# Altium schematic symbol library CHXXX.schlib: 489 symbols (part 4 of 7)
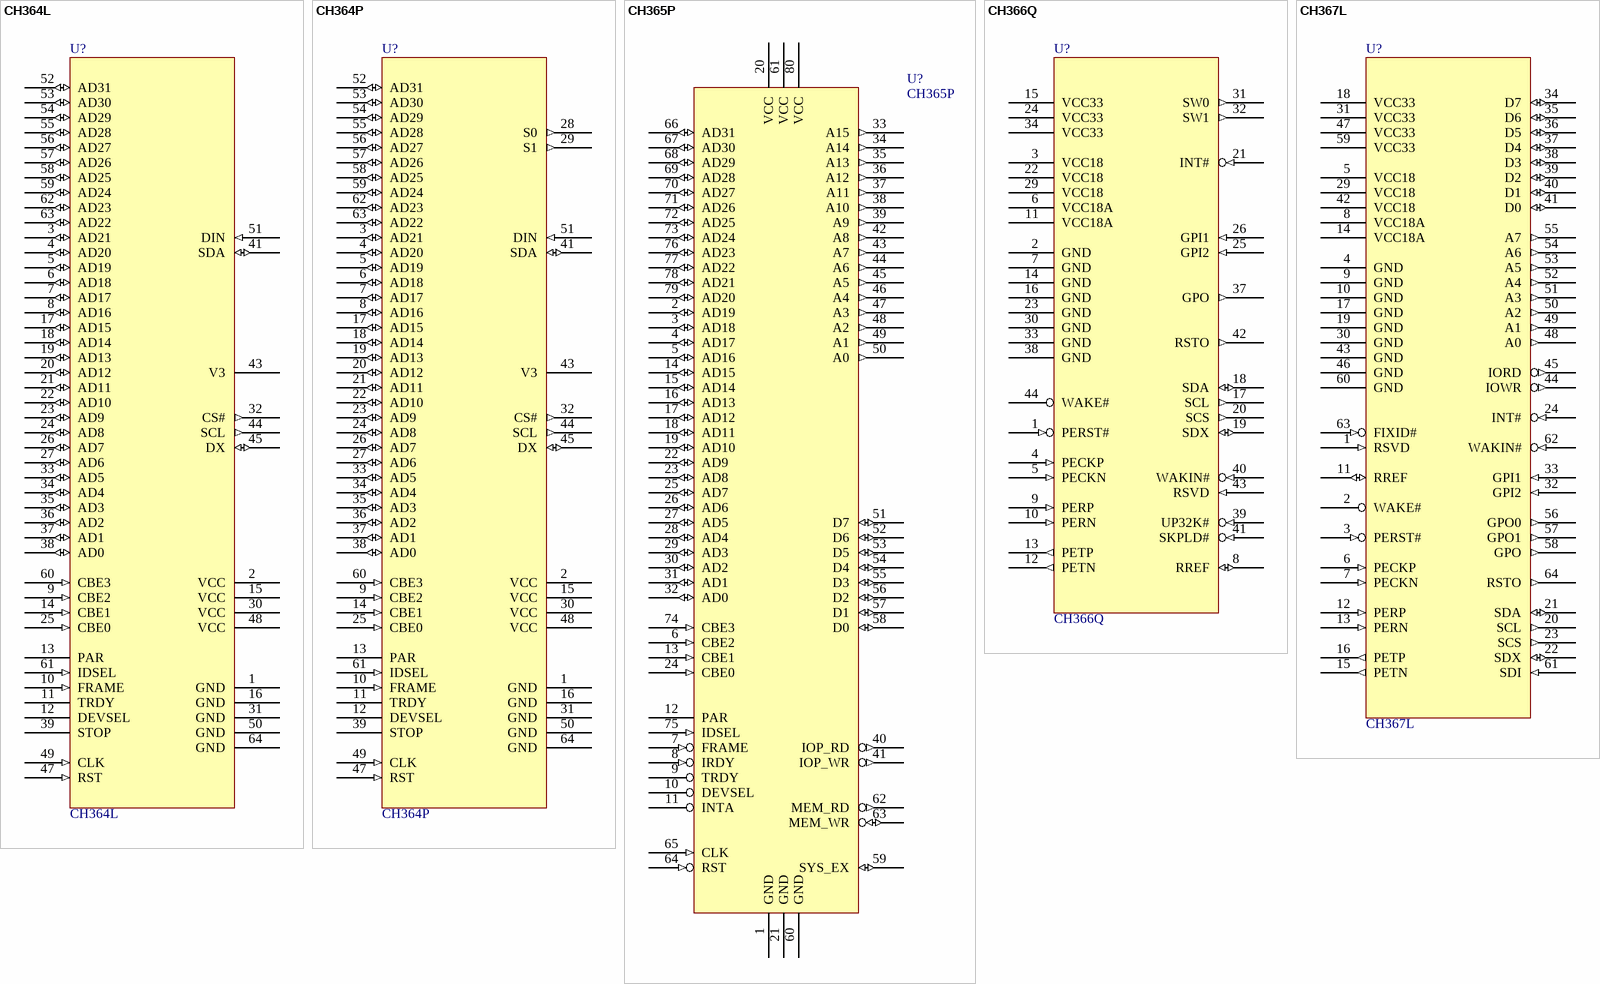
[diagram p65: symbols CH364L to CH367L]

## CH364P
designator U?
PCI Device / Slave Embedded Flash ROM, for Expansion ROM with control
footprint QFP64
pins: 1 GND (power), 2 VCC (power), 3 AD21 (io), 4 AD20 (io), 5 AD19 (io), 6 AD18 (io), 7 AD17 (io), 8 AD16 (io), 9 CBE2 (in), 10 FRAME (in), 11 TRDY (hiz), 12 DEVSEL (hiz), 13 PAR (hiz), 14 CBE1 (in), 15 VCC (power), 16 GND (power), 17 AD15 (io), 18 AD14 (io), 19 AD13 (io), 20 AD12 (io), 21 AD11 (io), 22 AD10 (io), 23 AD9 (io), 24 AD8 (io), 25 CBE0 (in), 26 AD7 (io), 27 AD6 (io), 28 S0 (out), 29 S1 (out), 30 VCC (power), 31 GND (power), 32 CS# (out), 33 AD5 (io), 34 AD4 (io), 35 AD3 (io), 36 AD2 (io), 37 AD1 (io), 38 AD0 (io), 39 STOP (hiz), 41 SDA (io), 43 V3 (power), 44 SCL (out), 45 DX (io), 47 RST (in), 48 VCC (power), 49 CLK (in), 50 GND (power), 51 DIN (in), 52 AD31 (io), 53 AD30 (io), 54 AD29 (io), 55 AD28 (io), 56 AD27 (io), 57 AD26 (io), 58 AD25 (io), 59 AD24 (io), 60 CBE3 (in), 61 IDSEL (in), 62 AD23 (io), 63 AD22 (io), 64 GND (power)

## CH365P
designator U?
PCI Device / Slave, for I/O port or RAM / ROM
footprint PQFP80
pins: 1 GND (power), 2 AD19 (io), 3 AD18 (io), 4 AD17 (io), 5 AD16 (io), 6 CBE2 (in), 7 FRAME (in), 8 IRDY (in), 9 TRDY (hiz), 10 DEVSEL (hiz), 11 INTA (hiz), 12 PAR (hiz), 13 CBE1 (in), 14 AD15 (io), 15 AD14 (io), 16 AD13 (io), 17 AD12 (io), 18 AD11 (io), 19 AD10 (io), 20 VCC (power), 21 GND (power), 22 AD9 (io), 23 AD8 (io), 24 CBE0 (in), 25 AD7 (io), 26 AD6 (io), 27 AD5 (io), 28 AD4 (io), 29 AD3 (io), 30 AD2 (io), 31 AD1 (io), 32 AD0 (io), 33 A15 (out), 34 A14 (out), 35 A13 (out), 36 A12 (out), 37 A11 (out), 38 A10 (out), 39 A9 (out), 40 IOP_RD (out), 41 IOP_WR (out), 42 A8 (out), 43 A7 (out), 44 A6 (out), 45 A5 (out), 46 A4 (out), 47 A3 (out), 48 A2 (out), 49 A1 (out), 50 A0 (out), 51 D7 (io), 52 D6 (io), 53 D5 (io), 54 D4 (io), 55 D3 (io), 56 D2 (io), 57 D1 (io), 58 D0 (io), 59 SYS_EX (io), 60 GND (power), 61 VCC (power), 62 MEM_RD (out), 63 MEM_WR (io), 64 RST (in), 65 CLK (in), 66 AD31 (io), 67 AD30 (io), 68 AD29 (io), 69 AD28 (io), 70 AD27 (io), 71 AD26 (io), 72 AD25 (io), 73 AD24 (io), 74 CBE3 (in), 75 IDSEL (in), 76 AD23 (io), 77 AD22 (io), 78 AD21 (io), 79 AD20 (io), 80 VCC (power)

## CH366Q
designator U?
PCIe Expansion ROM Controller
footprint LQFP44
pins: 1 PERST# (in), 2 GND (power), 3 VCC18 (power), 4 PECKP (in), 5 PECKN (in), 6 VCC18A (power), 7 GND (power), 8 RREF (io), 9 PERP (in), 10 PERN (in), 11 VCC18A (power), 12 PETN (out), 13 PETP (out), 14 GND (power), 15 VCC33 (power), 16 GND (power), 17 SCL (out), 18 SDA (io), 19 SDX (io), 20 SCS (out), 21 INT# (in), 22 VCC18 (power), 23 GND (power), 24 VCC33 (power), 25 GPI2 (in), 26 GPI1 (in), 29 VCC18 (power), 30 GND (power), 31 SW0 (out), 32 SW1 (out), 33 GND (power), 34 VCC33 (power), 37 GPO (out), 38 GND (power), 39 UP32K# (in), 40 WAKIN# (in), 41 SKPLD# (in), 42 RSTO (out), 43 RSVD (in), 44 WAKE# (oc)

## CH367L
designator U?
PCIe to 8-bit Local Bus, Support I/O Port
footprint LQFP64
pins: 1 RSVD (in), 2 WAKE# (oc), 3 PERST# (in), 4 GND (power), 5 VCC18 (power), 6 PECKP (in), 7 PECKN (in), 8 VCC18A (power), 9 GND (power), 10 GND (power), 11 RREF (io), 12 PERP (in), 13 PERN (in), 14 VCC18A (power), 15 PETN (out), 16 PETP (out), 17 GND (power), 18 VCC33 (power), 19 GND (power), 20 SCL (out), 21 SDA (io), 22 SDX (io), 23 SCS (out), 24 INT# (in), 29 VCC18 (power), 30 GND (power), 31 VCC33 (power), 32 GPI2 (in), 33 GPI1 (in), 34 D7 (io), 35 D6 (io), 36 D5 (io), 37 D4 (io), 38 D3 (io), 39 D2 (io), 40 D1 (io), 41 D0 (io), 42 VCC18 (power), 43 GND (power), 44 IOWR (out), 45 IORD (out), 46 GND (power), 47 VCC33 (power), 48 A0 (out), 49 A1 (out), 50 A2 (out), 51 A3 (out), 52 A4 (out), 53 A5 (out), 54 A6 (out), 55 A7 (out), 56 GPO0 (out), 57 GPO1 (out), 58 GPO (out), 59 VCC33 (power), 60 GND (power), 61 SDI (in), 62 WAKIN# (in), 63 FIXID# (in), 64 RSTO (out)

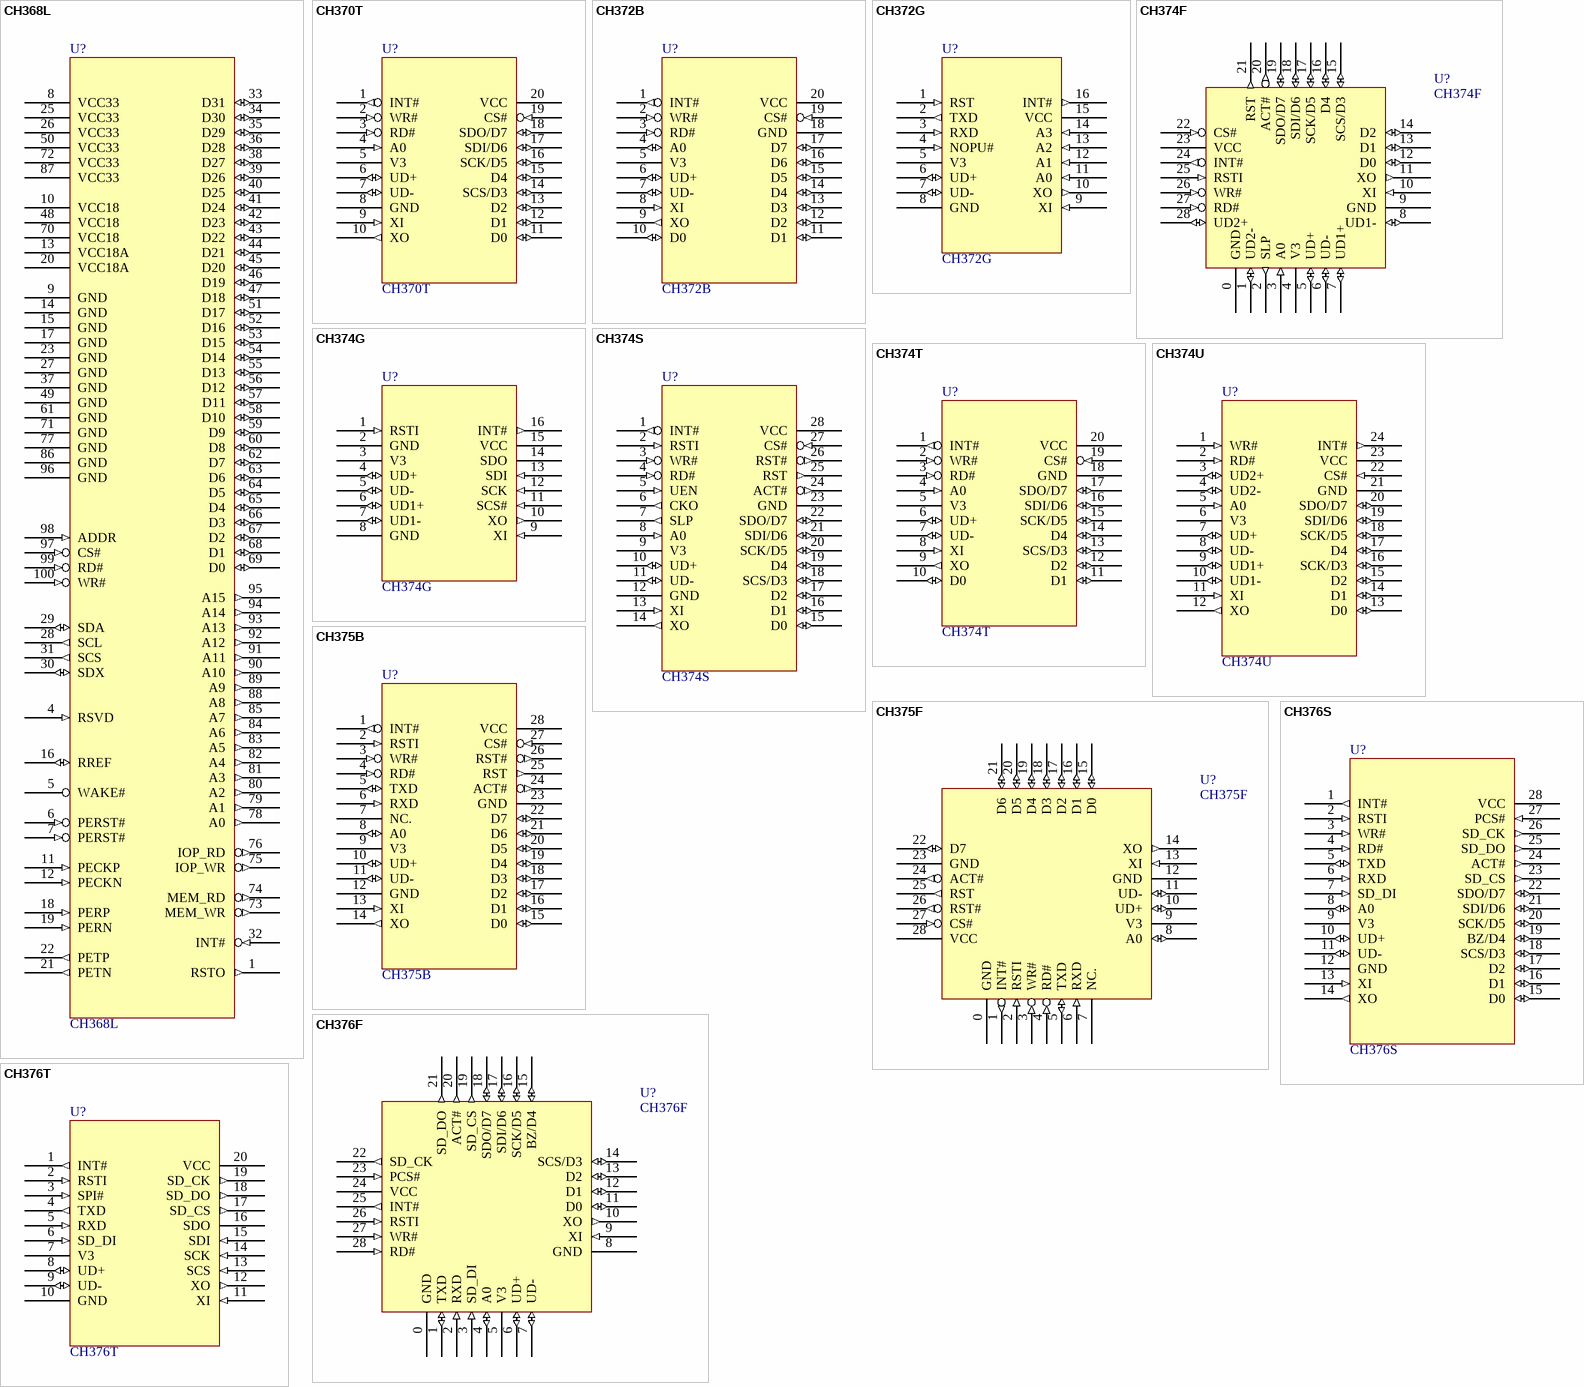
[diagram p28: symbols CH368L to CH376T]

## CH368L
designator U?
PCIe to 32-bit Local Bus, Support I/O Port and Memory
footprint LQFP100
pins: 1 RSTO (out), 4 RSVD (in), 5 WAKE# (oc), 6 PERST# (in), 7 PERST# (in), 8 VCC33 (power), 9 GND (power), 10 VCC18 (power), 11 PECKP (in), 12 PECKN (in), 13 VCC18A (power), 14 GND (power), 15 GND (power), 16 RREF (io), 17 GND (power), 18 PERP (in), 19 PERN (in), 20 VCC18A (power), 21 PETN (out), 22 PETP (out), 23 GND (power), 25 VCC33 (power), 26 VCC33 (power), 27 GND (power), 28 SCL (out), 29 SDA (io), 30 SDX (io), 31 SCS (out), 32 INT# (in), 33 D31 (io), 34 D30 (io), 35 D29 (io), 36 D28 (io), 37 GND (power), 38 D27 (io), 39 D26 (io), 40 D25 (io), 41 D24 (io), 42 D23 (io), 43 D22 (io), 44 D21 (io), 45 D20 (io), 46 D19 (io), 47 D18 (io), 48 VCC18 (power), 49 GND (power), 50 VCC33 (power), 51 D17 (io), 52 D16 (io), 53 D15 (io), 54 D14 (io), 55 D13 (io), 56 D12 (io), 57 D11 (io), 58 D10 (io), 59 D9 (io), 60 D8 (io), 61 GND (power), 62 D7 (io), 63 D6 (io), 64 D5 (io), 65 D4 (io), 66 D3 (io), 67 D2 (io), 68 D1 (io), 69 D0 (io), 70 VCC18 (power), 71 GND (power), 72 VCC33 (power), 73 MEM_WR (out), 74 MEM_RD (out), 75 IOP_WR (out), 76 IOP_RD (out), 77 GND (power), 78 A0 (out), 79 A1 (out), 80 A2 (out), 81 A3 (out), 82 A4 (out), 83 A5 (out), 84 A6 (out), 85 A7 (out), 86 GND (power), 87 VCC33 (power), 88 A8 (out), 89 A9 (out), 90 A10 (out), 91 A11 (out), 92 A12 (out), 93 A13 (out), 94 A14 (out), 95 A15 (out), 96 GND (power), 97 CS# (in), 98 ADDR (in), 99 RD# (in), 100 WR# (in)

## CH370T
designator U?
USB Host for MCU, parallel / SPI
footprint SSOP20
pins: 1 INT# (out), 2 WR# (in), 3 RD# (in), 4 A0 (in), 5 V3 (power), 6 UD+ (io), 7 UD- (io), 8 GND (power), 9 XI (in), 10 XO (out), 11 D0 (io), 12 D1 (io), 13 D2 (io), 14 SCS/D3 (io), 15 D4 (io), 16 SCK/D5 (io), 17 SDI/D6 (io), 18 SDO/D7 (io), 19 CS# (in), 20 VCC (power)

## CH372B
designator U?
USB Device / Slave for MCU, Parallel
footprint SSOP20
pins: 1 INT# (out), 2 WR# (in), 3 RD# (in), 4 A0 (io), 5 V3 (power), 6 UD+ (io), 7 UD- (io), 8 XI (in), 9 XO (out), 10 D0 (io), 11 D1 (io), 12 D2 (io), 13 D3 (io), 14 D4 (io), 15 D5 (io), 16 D6 (io), 17 D7 (io), 18 GND (power), 19 CS# (in), 20 VCC (power)

## CH372G
designator U?
USB Device / Slave for MCU, Serial UART
footprint SOP16
pins: 1 RST (in), 2 TXD (out), 3 RXD (in), 4 NOPU# (in), 5 V3 (power), 6 UD+ (io), 7 UD- (io), 8 GND (power), 9 XI (in), 10 XO (out), 11 A0 (in), 12 A1 (in), 13 A2 (in), 14 A3 (in), 15 VCC (power), 16 INT# (out)

## CH374F
designator U?
USB Host & Device / Slave for MCU, parallel / SPI, Embed 3 Hub
footprint QFN28_4X4
pins: 0 GND (power), 1 UD2- (io), 2 SLP (out), 3 A0 (in), 4 V3 (power), 5 UD+ (io), 6 UD- (io), 7 UD1+ (io), 8 UD1- (io), 9 GND (power), 10 XI (in), 11 XO (out), 12 D0 (io), 13 D1 (io), 14 D2 (io), 15 SCS/D3 (io), 16 D4 (io), 17 SCK/D5 (io), 18 SDI/D6 (io), 19 SDO/D7 (io), 20 ACT# (out), 21 RST (out), 22 CS# (in), 23 VCC (power), 24 INT# (out), 25 RSTI (in), 26 WR# (in), 27 RD# (in), 28 UD2+ (io)

## CH374G
designator U?
USB Host & Device / Slave for MCU, SPI
footprint SOP16
pins: 1 RSTI (in), 2 GND (power), 3 V3 (power), 4 UD+ (io), 5 UD- (io), 6 UD1+ (io), 7 UD1- (io), 8 GND (power), 9 XI (in), 10 XO (out), 11 SCS# (in), 12 SCK (in), 13 SDI (in), 14 SDO (hiz), 15 VCC (power), 16 INT# (out)

## CH374S
designator U?
USB Host & Device / Slave for MCU, parallel / SPI
footprint SOP28
footprint DIP28
pins: 1 INT# (out), 2 RSTI (in), 3 WR# (in), 4 RD# (in), 5 UEN (in), 6 CKO (out), 7 SLP (out), 8 A0 (in), 9 V3 (power), 10 UD+ (io), 11 UD- (io), 12 GND (power), 13 XI (in), 14 XO (out), 15 D0 (io), 16 D1 (io), 17 D2 (io), 18 SCS/D3 (io), 19 D4 (io), 20 SCK/D5 (io), 21 SDI/D6 (io), 22 SDO/D7 (io), 23 GND (power), 24 ACT# (out), 25 RST (out), 26 RST# (out), 27 CS# (in), 28 VCC (power)

## CH374T
designator U?
USB Host & Device / Slave for MCU, parallel / SPI
footprint SSOP20
pins: 1 INT# (out), 2 WR# (in), 3 RD# (in), 4 A0 (in), 5 V3 (power), 6 UD+ (io), 7 UD- (io), 8 XI (in), 9 XO (out), 10 D0 (io), 11 D1 (io), 12 D2 (io), 13 SCS/D3 (io), 14 D4 (io), 15 SCK/D5 (io), 16 SDI/D6 (io), 17 SDO/D7 (io), 18 GND (power), 19 CS# (in), 20 VCC (power)

## CH374U
designator U?
USB Host & Device / Slave for MCU, parallel / SPI, Embed 3 Hub
footprint SSOP24
pins: 1 WR# (in), 2 RD# (in), 3 UD2+ (io), 4 UD2- (io), 5 A0 (in), 6 V3 (power), 7 UD+ (io), 8 UD- (io), 9 UD1+ (io), 10 UD1- (io), 11 XI (in), 12 XO (out), 13 D0 (io), 14 D1 (io), 15 D2 (io), 16 SCK/D3 (io), 17 D4 (io), 18 SCK/D5 (io), 19 SDI/D6 (io), 20 SDO/D7 (io), 21 GND (power), 22 CS# (in), 23 VCC (power), 24 INT# (out)

## CH375B
designator U?
USB Host & Device / Slave for MCU, parallel / UART Serial
footprint SOP28
footprint TSSOP28
footprint DIP28
pins: 1 INT# (out), 2 RSTI (in), 3 WR# (in), 4 RD# (in), 5 TXD (io), 6 RXD (in), 7 NC., 8 A0 (io), 9 V3 (power), 10 UD+ (io), 11 UD- (io), 12 GND (power), 13 XI (in), 14 XO (out), 15 D0 (io), 16 D1 (io), 17 D2 (io), 18 D3 (io), 19 D4 (io), 20 D5 (io), 21 D6 (io), 22 D7 (io), 23 GND (power), 24 ACT# (out), 25 RST (out), 26 RST# (out), 27 CS# (in), 28 VCC (power)

## CH375F
designator U?
USB Host & Device / Slave for MCU, parallel / UART Serial
footprint QFN28_4X4
footprint DIP28
pins: 0 GND (power), 1 INT# (out), 2 RSTI (in), 3 WR# (in), 4 RD# (in), 5 TXD (io), 6 RXD (in), 7 NC., 8 A0 (io), 9 V3 (power), 10 UD+ (io), 11 UD- (io), 12 GND (power), 13 XI (in), 14 XO (out), 15 D0 (io), 16 D1 (io), 17 D2 (io), 18 D3 (io), 19 D4 (io), 20 D5 (io), 21 D6 (io), 22 D7 (io), 23 GND (power), 24 ACT# (out), 25 RST (out), 26 RST# (out), 27 CS# (in), 28 VCC (power)

## CH376F
designator U?
USB Host and SD card Host with File System & USB Device for MCU, parallel / SPI / UART Serial
footprint QFN28_4X4
footprint DIP28
pins: 0 GND (power), 1 TXD (io), 2 RXD (in), 3 SD_DI (in), 4 A0 (io), 5 V3 (power), 6 UD+ (io), 7 UD- (io), 8 GND (power), 9 XI (in), 10 XO (out), 11 D0 (io), 12 D1 (io), 13 D2 (io), 14 SCS/D3 (io), 15 BZ/D4 (io), 16 SCK/D5 (io), 17 SDI/D6 (io), 18 SDO/D7 (io), 19 SD_CS (out), 20 ACT# (out), 21 SD_DO (out), 22 SD_CK (out), 23 PCS# (in), 24 VCC (power), 25 INT# (out), 26 RSTI (in), 27 WR# (in), 28 RD# (in)

## CH376S
designator U?
USB Host and SD card Host with File System & USB Device for MCU, parallel / SPI / UART Serial
footprint SOP28
footprint DIP28
pins: 1 INT# (out), 2 RSTI (in), 3 WR# (in), 4 RD# (in), 5 TXD (io), 6 RXD (in), 7 SD_DI (in), 8 A0 (io), 9 V3 (power), 10 UD+ (io), 11 UD- (io), 12 GND (power), 13 XI (in), 14 XO (out), 15 D0 (io), 16 D1 (io), 17 D2 (io), 18 SCS/D3 (io), 19 BZ/D4 (io), 20 SCK/D5 (io), 21 SDI/D6 (io), 22 SDO/D7 (io), 23 SD_CS (out), 24 ACT# (out), 25 SD_DO (out), 26 SD_CK (out), 27 PCS# (in), 28 VCC (power)

## CH376T
designator U?
USB Host and SD card Host with File System & USB Device for MCU, SPI / UART Serial
footprint SSOP20
pins: 1 INT# (out), 2 RSTI (in), 3 SPI# (in), 4 TXD (out), 5 RXD (in), 6 SD_DI (in), 7 V3 (power), 8 UD+ (io), 9 UD- (io), 10 GND (power), 11 XI (in), 12 XO (out), 13 SCS (in), 14 SCK (in), 15 SDI (in), 16 SDO (hiz), 17 SD_CS (out), 18 SD_DO (out), 19 SD_CK (out), 20 VCC (power)

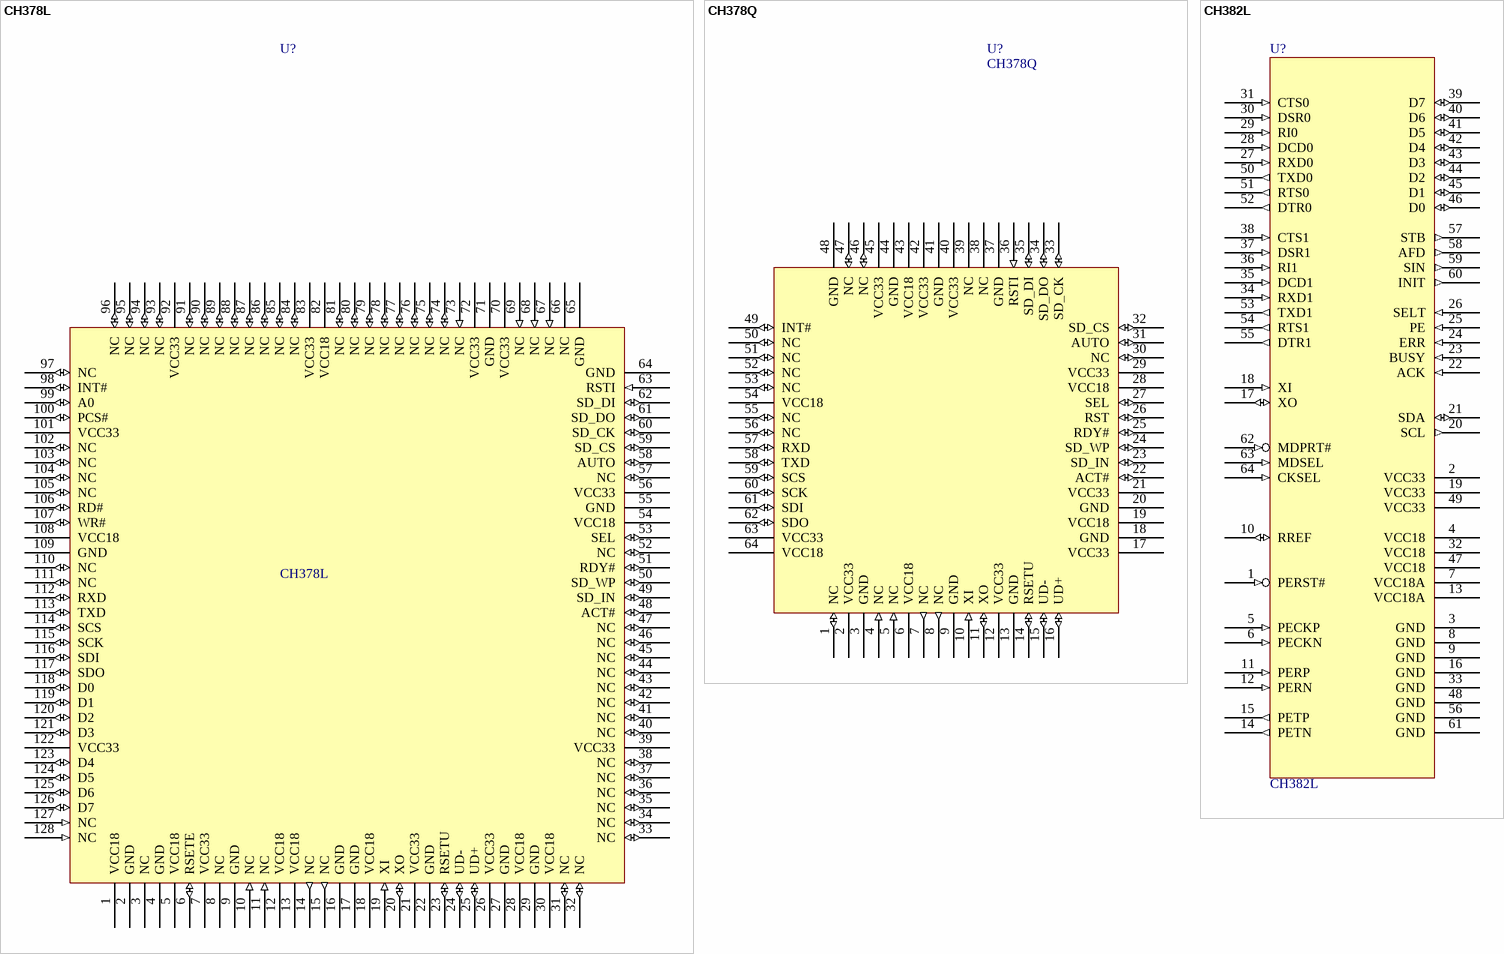
[diagram p29: symbols CH378L to CH382L]

## CH378L
designator U?
USB2.0 Host with File System & USB Device for MCU, parallel / SPI / UART Serial
footprint LQFP128
pins: 1 VCC18 (power), 2 GND (power), 3 NC, 4 GND (power), 5 VCC18 (power), 6 RSETE (io), 7 VCC33 (power), 8 NC, 9 GND (power), 10 NC (in), 11 NC (in), 12 VCC18 (power), 13 VCC18 (power), 14 NC (out), 15 NC (out), 16 GND (power), 17 GND (power), 18 VCC18 (power), 19 XI (in), 20 XO (io), 21 VCC33 (power), 22 GND (power), 23 RSETU (io), 24 UD- (io), 25 UD+ (io), 26 VCC33 (power), 27 GND (power), 28 VCC18 (power), 29 GND (power), 30 VCC18 (power), 31 NC (io), 32 NC (io), 33 NC (io), 34 NC (io), 35 NC (io), 36 NC (io), 37 NC (io), 38 NC (io), 39 VCC33 (power), 40 NC (io), 41 NC (io), 42 NC (io), 43 NC (io), 44 NC (io), 45 NC (io), 46 NC (io), 47 NC (io), 48 ACT# (io), 49 SD_IN (io), 50 SD_WP (io), 51 RDY# (io), 52 NC (io), 53 SEL (io), 54 VCC18 (power), 55 GND (power), 56 VCC33 (power), 57 NC (io), 58 AUTO (io), 59 SD_CS (io), 60 SD_CK (io), 61 SD_DO (io), 62 SD_DI (io), 63 RSTI (in), 64 GND (power), 65 GND (power), 66 NC (power), 67 NC (in), 68 NC (in), 69 NC (in), 70 VCC33 (power), 71 GND (power), 72 VCC33 (power), 73 NC (in), 74 NC (io), 75 NC (io), 76 NC (io), 77 NC (io), 78 NC (io), 79 NC (io), 80 NC (io), 81 NC (io), 82 VCC18 (power), 83 VCC33 (power), 84 NC (io), 85 NC (io), 86 NC (io), 87 NC (io), 88 NC (io), 89 NC (io), 90 NC (io), 91 NC (io), 92 VCC33 (power), 93 NC (io), 94 NC (io), 95 NC (io), 96 NC (io), 97 NC (io), 98 INT# (io), 99 A0 (io), 100 PCS# (io), 101 VCC33 (power), 102 NC (io), 103 NC (io), 104 NC (io), 105 NC (io), 106 RD# (io), 107 WR# (io), 108 VCC18 (power), 109 GND (power), 110 NC (io), 111 NC (io), 112 RXD (io), 113 TXD (io), 114 SCS (io), 115 SCK (io), 116 SDI (io), 117 SDO (io), 118 D0 (io), 119 D1 (io), 120 D2 (io), 121 D3 (io), 122 VCC33 (power), 123 D4 (io), 124 D5 (io), 125 D6 (io), 126 D7 (io), 127 NC (in), 128 NC (in)

## CH378Q
designator U?
USB2.0 Host with File System & USB Device for MCU, parallel / SPI / UART Serial
footprint LQFP64M_10X10
pins: 1 NC (io), 2 VCC33 (power), 3 GND (power), 4 NC (in), 5 NC (in), 6 VCC18 (power), 7 NC (out), 8 NC (out), 9 GND (power), 10 XI (in), 11 XO (io), 12 VCC33 (power), 13 GND (power), 14 RSETU (io), 15 UD- (io), 16 UD+ (io), 17 VCC33 (power), 18 GND (power), 19 VCC18 (power), 20 GND (power), 21 VCC33 (power), 22 ACT# (io), 23 SD_IN (io), 24 SD_WP (io), 25 RDY# (io), 26 RST (io), 27 SEL (io), 28 VCC18 (power), 29 VCC33 (power), 30 NC (io), 31 AUTO (io), 32 SD_CS (io), 33 SD_CK (io), 34 SD_DO (io), 35 SD_DI (io), 36 RSTI (in), 37 GND (power), 38 NC (power), 39 NC, 40 VCC33 (power), 41 GND (power), 42 VCC33 (power), 43 VCC18 (power), 44 GND (power), 45 VCC33 (power), 46 NC (io), 47 NC (io), 48 GND (power), 49 INT# (io), 50 NC (io), 51 NC (io), 52 NC (io), 53 NC (io), 54 VCC18 (power), 55 NC (io), 56 NC (io), 57 RXD (io), 58 TXD (io), 59 SCS (io), 60 SCK (io), 61 SDI (io), 62 SDO (io), 63 VCC33 (power), 64 VCC18 (power)

## CH382L
designator U?
PCIe to 2S1P: Print Port / Parallel and Dual 16C550 UART with 256 byte FIFO
footprint LQFP64
pins: 1 PERST# (in), 2 VCC33 (power), 3 GND (power), 4 VCC18 (power), 5 PECKP (in), 6 PECKN (in), 7 VCC18A (power), 8 GND (power), 9 GND (power), 10 RREF (io), 11 PERP (in), 12 PERN (in), 13 VCC18A (power), 14 PETN (out), 15 PETP (out), 16 GND (power), 17 XO (io), 18 XI (in), 19 VCC33 (power), 20 SCL (out), 21 SDA (io), 22 ACK (in), 23 BUSY (in), 24 ERR (in), 25 PE (in), 26 SELT (in), 27 RXD0 (in), 28 DCD0 (in), 29 RI0 (in), 30 DSR0 (in), 31 CTS0 (in), 32 VCC18 (power), 33 GND (power), 34 RXD1 (in), 35 DCD1 (in), 36 RI1 (in), 37 DSR1 (in), 38 CTS1 (in), 39 D7 (io), 40 D6 (io), 41 D5 (io), 42 D4 (io), 43 D3 (io), 44 D2 (io), 45 D1 (io), 46 D0 (io), 47 VCC18 (power), 48 GND (power), 49 VCC33 (power), 50 TXD0 (out), 51 RTS0 (out), 52 DTR0 (out), 53 TXD1 (out), 54 RTS1 (out), 55 DTR1 (out), 56 GND (power), 57 STB (out), 58 AFD (out), 59 SIN (out), 60 INIT (out), 61 GND (power), 62 MDPRT# (in), 63 MDSEL (in), 64 CKSEL (in)

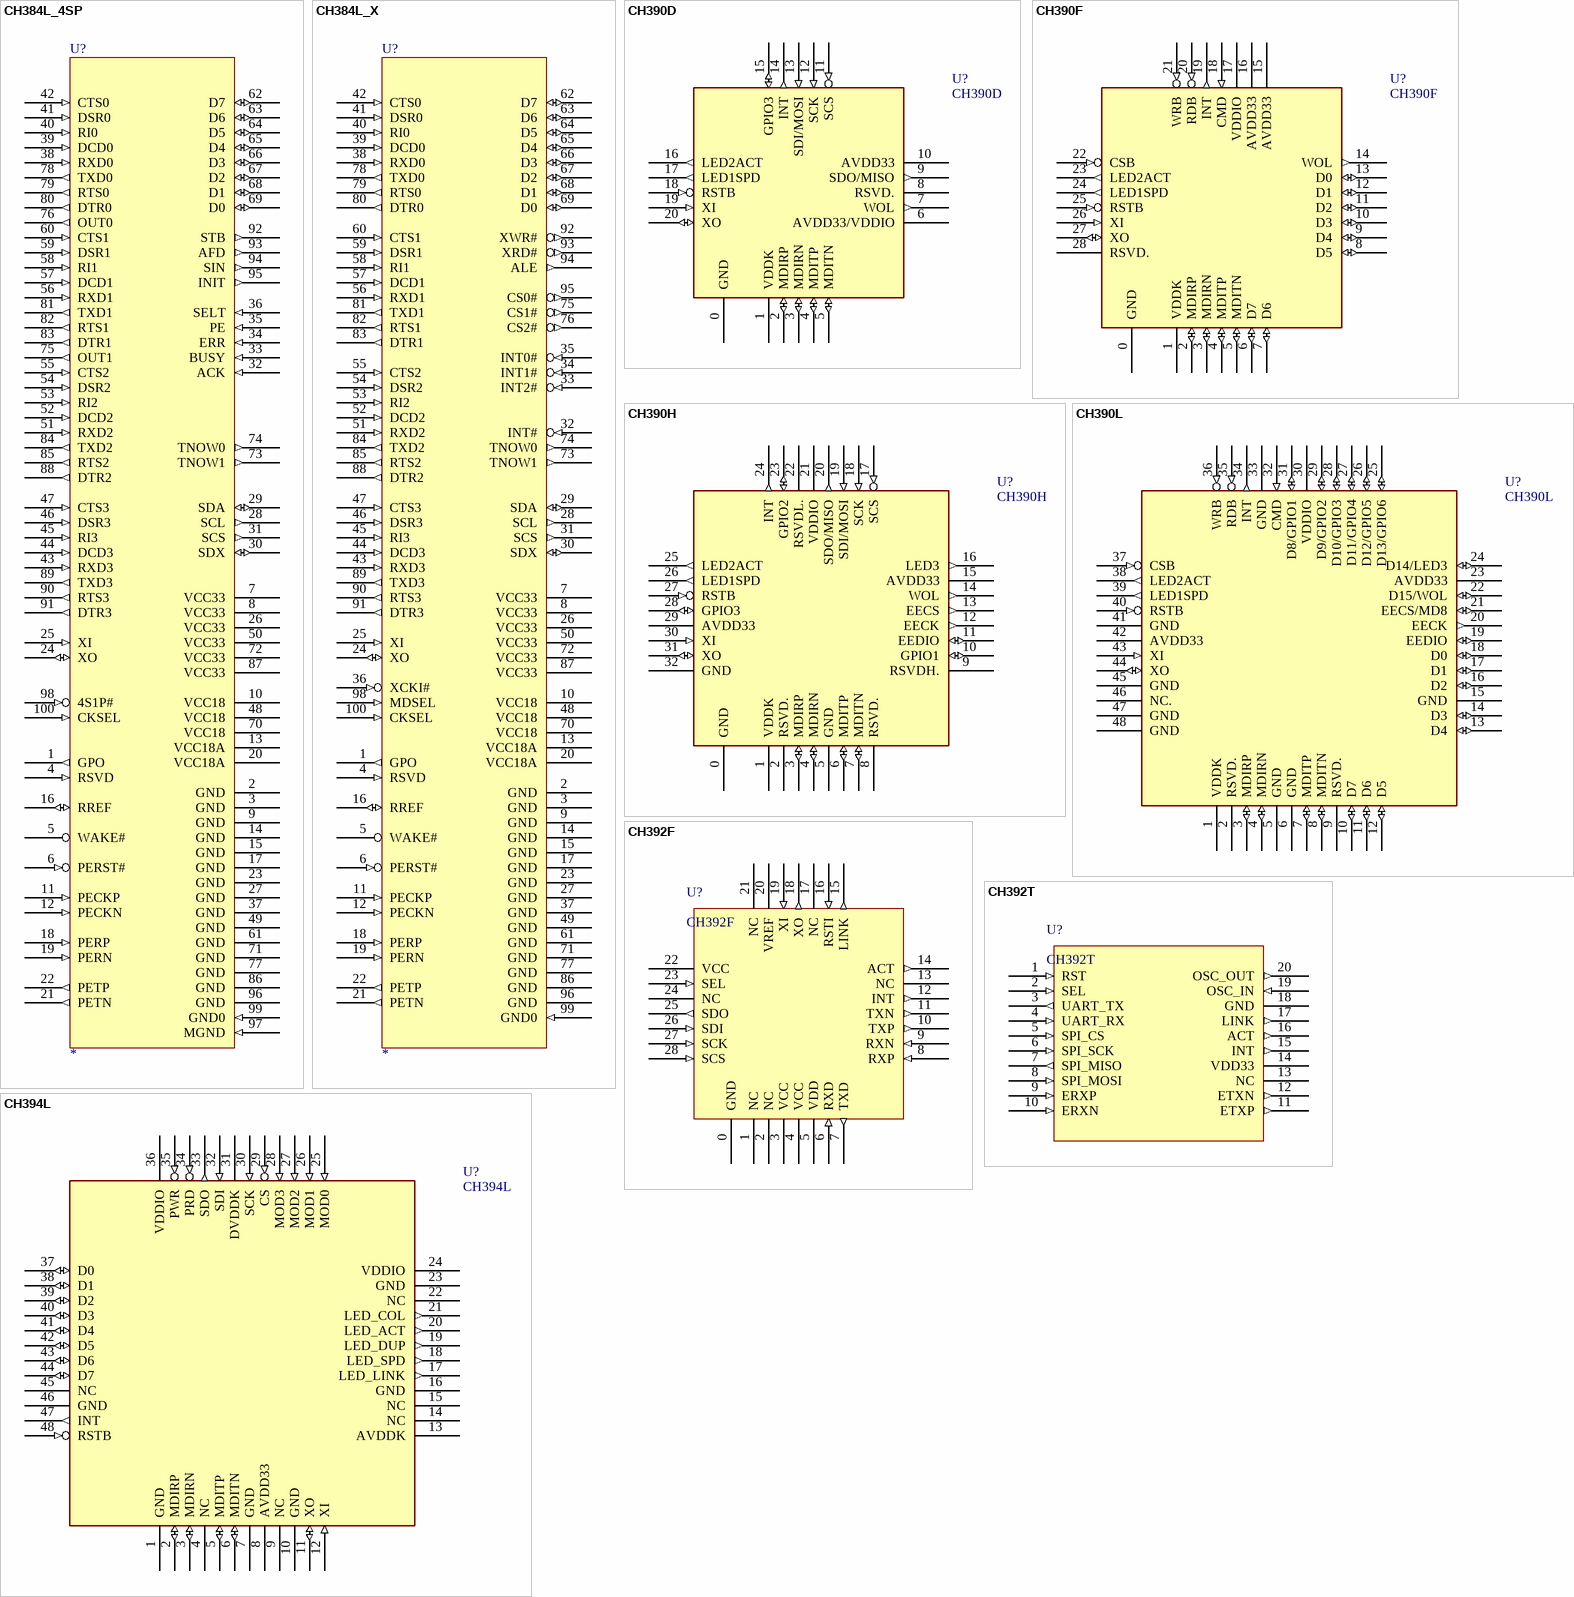
[diagram p30: symbols CH384L_4SP to CH394L]

## CH384L_4SP
designator U?
PCIe to 4S1P: Print Port / Parallel and Quad 16C550 UART with 256 byte FIFO
footprint LQFP100
pins: 1 GPO (out), 2 GND (power), 3 GND (power), 4 RSVD (in), 5 WAKE# (oc), 6 PERST# (in), 7 VCC33 (power), 8 VCC33 (power), 9 GND (power), 10 VCC18 (power), 11 PECKP (in), 12 PECKN (in), 13 VCC18A (power), 14 GND (power), 15 GND (power), 16 RREF (io), 17 GND (power), 18 PERP (in), 19 PERN (in), 20 VCC18A (power), 21 PETN (out), 22 PETP (out), 23 GND (power), 24 XO (io), 25 XI (in), 26 VCC33 (power), 27 GND (power), 28 SCL (out), 29 SDA (io), 30 SDX (io), 31 SCS (out), 32 ACK (in), 33 BUSY (in), 34 ERR (in), 35 PE (in), 36 SELT (in), 37 GND (power), 38 RXD0 (in), 39 DCD0 (in), 40 RI0 (in), 41 DSR0 (in), 42 CTS0 (in), 43 RXD3 (in), 44 DCD3 (in), 45 RI3 (in), 46 DSR3 (in), 47 CTS3 (in), 48 VCC18 (power), 49 GND (power), 50 VCC33 (power), 51 RXD2 (in), 52 DCD2 (in), 53 RI2 (in), 54 DSR2 (in), 55 CTS2 (in), 56 RXD1 (in), 57 DCD1 (in), 58 RI1 (in), 59 DSR1 (in), 60 CTS1 (in), 61 GND (power), 62 D7 (io), 63 D6 (io), 64 D5 (io), 65 D4 (io), 66 D3 (io), 67 D2 (io), 68 D1 (io), 69 D0 (io), 70 VCC18 (power), 71 GND (power), 72 VCC33 (power), 73 TNOW1 (out), 74 TNOW0 (out), 75 OUT1 (out), 76 OUT0 (out), 77 GND (power), 78 TXD0 (out), 79 RTS0 (out), 80 DTR0 (out), 81 TXD1 (out), 82 RTS1 (out), 83 DTR1 (out), 84 TXD2 (out), 85 RTS2 (out), 86 GND (power), 87 VCC33 (power), 88 DTR2 (out), 89 TXD3 (out), 90 RTS3 (out), 91 DTR3 (out), 92 STB (out), 93 AFD (out), 94 SIN (out), 95 INIT (out), 96 GND (power), 97 MGND (in), 98 4S1P# (in), 99 GND0 (in), 100 CKSEL (in)

## CH384L_X
designator U?
PCIe to 8S or 28S: External 8 or 24*UART
footprint LQFP100
pins: 1 GPO (out), 2 GND (power), 3 GND (power), 4 RSVD (in), 5 WAKE# (oc), 6 PERST# (in), 7 VCC33 (power), 8 VCC33 (power), 9 GND (power), 10 VCC18 (power), 11 PECKP (in), 12 PECKN (in), 13 VCC18A (power), 14 GND (power), 15 GND (power), 16 RREF (io), 17 GND (power), 18 PERP (in), 19 PERN (in), 20 VCC18A (power), 21 PETN (out), 22 PETP (out), 23 GND (power), 24 XO (io), 25 XI (in), 26 VCC33 (power), 27 GND (power), 28 SCL (out), 29 SDA (io), 30 SDX (io), 31 SCS (out), 32 INT# (in), 33 INT2# (in), 34 INT1# (in), 35 INT0# (in), 36 XCKI# (in), 37 GND (power), 38 RXD0 (in), 39 DCD0 (in), 40 RI0 (in), 41 DSR0 (in), 42 CTS0 (in), 43 RXD3 (in), 44 DCD3 (in), 45 RI3 (in), 46 DSR3 (in), 47 CTS3 (in), 48 VCC18 (power), 49 GND (power), 50 VCC33 (power), 51 RXD2 (in), 52 DCD2 (in), 53 RI2 (in), 54 DSR2 (in), 55 CTS2 (in), 56 RXD1 (in), 57 DCD1 (in), 58 RI1 (in), 59 DSR1 (in), 60 CTS1 (in), 61 GND (power), 62 D7 (io), 63 D6 (io), 64 D5 (io), 65 D4 (io), 66 D3 (io), 67 D2 (io), 68 D1 (io), 69 D0 (io), 70 VCC18 (power), 71 GND (power), 72 VCC33 (power), 73 TNOW1 (out), 74 TNOW0 (out), 75 CS1# (out), 76 CS2# (out), 77 GND (power), 78 TXD0 (out), 79 RTS0 (out), 80 DTR0 (out), 81 TXD1 (out), 82 RTS1 (out), 83 DTR1 (out), 84 TXD2 (out), 85 RTS2 (out), 86 GND (power), 87 VCC33 (power), 88 DTR2 (out), 89 TXD3 (out), 90 RTS3 (out), 91 DTR3 (out), 92 XWR# (out), 93 XRD# (out), 94 ALE (out), 95 CS0# (out), 96 GND (power), 98 MDSEL (in), 99 GND0 (in), 100 CKSEL (in)

## CH390D
designator U?
SPI to 10/100M Ethernet MAC & PHY
footprint QFN20_3X3
pins: 0 GND (power), 1 VDDK (power), 2 MDIRP (io), 3 MDIRN (io), 4 MDITP (io), 5 MDITN (io), 6 AVDD33/VDDIO (power), 7 WOL (out), 8 RSVD., 9 SDO/MISO (out), 10 AVDD33 (power), 11 SCS (in), 12 SCK (in), 13 SDI/MOSI (in), 14 INT (out), 15 GPIO3 (io), 16 LED2ACT (out), 17 LED1SPD (out), 18 RSTB (in), 19 XI (in), 20 XO (io)
2 alternate drawings of the same symbol

## CH390F
designator U?
Parallel to 10/100M Ethernet MAC & PHY
footprint QFN28_4X4
pins: 0 GND (power), 1 VDDK (power), 2 MDIRP (io), 3 MDIRN (io), 4 MDITP (io), 5 MDITN (io), 6 D7 (io), 7 D6 (io), 8 D5 (io), 9 D4 (io), 10 D3 (io), 11 D2 (io), 12 D1 (io), 13 D0 (io), 14 WOL (out), 15 AVDD33 (power), 16 AVDD33 (power), 17 VDDIO (power), 18 CMD (in), 19 INT (out), 20 RDB (in), 21 WRB (in), 22 CSB (in), 23 LED2ACT (out), 24 LED1SPD (out), 25 RSTB (in), 26 XI (in), 27 XO (io), 28 RSVD.
2 alternate drawings of the same symbol

## CH390H
designator U?
SPI to 10/100M Ethernet MAC & PHY
footprint QFN32_5X5
pins: 0 GND (power), 1 VDDK (power), 2 RSVD., 3 MDIRP (io), 4 MDIRN (io), 5 GND (power), 6 MDITP (io), 7 MDITN (io), 8 RSVD., 9 RSVDH., 10 GPIO1 (io), 11 EEDIO (io), 12 EECK (out), 13 EECS (out), 14 WOL (out), 15 AVDD33 (power), 16 LED3 (out), 17 SCS (in), 18 SCK (in), 19 SDI/MOSI (in), 20 SDO/MISO (out), 21 VDDIO (power), 22 RSVDL., 23 GPIO2 (io), 24 INT (out), 25 LED2ACT (out), 26 LED1SPD (out), 27 RSTB (in), 28 GPIO3 (io), 29 AVDD33 (power), 30 XI (in), 31 XO (io), 32 GND (power)
2 alternate drawings of the same symbol

## CH390L
designator U?
Parallel to 10/100M Ethernet MAC & PHY
footprint LQFP48
pins: 1 VDDK (power), 2 RSVD., 3 MDIRP (io), 4 MDIRN (io), 5 GND (power), 6 GND (power), 7 MDITP (io), 8 MDITN (io), 9 RSVD., 10 D7 (io), 11 D6 (io), 12 D5 (io), 13 D4 (io), 14 D3 (io), 15 GND (power), 16 D2 (io), 17 D1 (io), 18 D0 (io), 19 EEDIO (io), 20 EECK (out), 21 EECS/MD8 (io), 22 D15/WOL (io), 23 AVDD33 (power), 24 D14/LED3 (io), 25 D13/GPIO6 (io), 26 D12/GPIO5 (io), 27 D11/GPIO4 (io), 28 D10/GPIO3 (io), 29 D9/GPIO2 (io), 30 VDDIO (power), 31 D8/GPIO1 (io), 32 CMD (in), 33 GND (power), 34 INT (out), 35 RDB (in), 36 WRB (in), 37 CSB (in), 38 LED2ACT (out), 39 LED1SPD (out), 40 RSTB (in), 41 GND (power), 42 AVDD33 (power), 43 XI (in), 44 XO (io), 45 GND (power), 46 NC., 47 GND (power), 48 GND (power)
2 alternate drawings of the same symbol

## CH392F
designator U?
TCP/IP embedded 10M ethernet controller for MCU connecting internet, UART/SPI
footprint QFN28_4X4
pins: 0 GND (power), 1 NC, 2 NC, 3 VCC (power), 4 VCC (power), 5 VDD (power), 6 RXD (in), 7 TXD (out), 8 RXP (in), 9 RXN (in), 10 TXP (out), 11 TXN (out), 12 INT (out), 13 NC, 14 ACT (out), 15 LINK (out), 16 RSTI (in), 17 NC, 18 XO (out), 19 XI (in), 20 VREF (hiz), 21 NC, 22 VCC (power), 23 SEL (in), 24 NC, 25 SDO (out), 26 SDI (in), 27 SCK (in), 28 SCS (in)

## CH392T
designator U?
TCP/IP embedded 10M ethernet controller for MCU connecting internet, UART/SPI
footprint TSSOP20
pins: 1 RST (in), 2 SEL (in), 3 UART_TX (out), 4 UART_RX (in), 5 SPI_CS (in), 6 SPI_SCK (in), 7 SPI_MISO (out), 8 SPI_MOSI (in), 9 ERXP (in), 10 ERXN (in), 11 ETXP (out), 12 ETXN (out), 13 NC, 14 VDD33 (power), 15 INT (out), 16 ACT (out), 17 LINK (out), 18 GND (power), 19 OSC_IN (in), 20 OSC_OUT (out)

## CH394L
designator U?
TCP/IP embedded 10M/100Mbps ethernet controller for MCU connecting internet
footprint LQFP48 (Footprint not found)
pins: 1 GND (power), 2 MDIRP (io), 3 MDIRN (io), 4 NC, 5 MDITP (io), 6 MDITN (io), 7 GND, 8 AVDD33 (power), 9 NC, 10 GND, 11 XO (io), 12 XI (in), 13 AVDDK (power), 14 NC, 15 NC, 16 GND (power), 17 LED_LINK (out), 18 LED_SPD (out), 19 LED_DUP (out), 20 LED_ACT (out), 21 LED_COL (out), 22 NC, 23 GND (power), 24 VDDIO (power), 25 MOD0 (in), 26 MOD1 (in), 27 MOD2 (in), 28 MOD3 (in), 29 CS (in), 30 SCK (in), 31 DVDDK (power), 32 SDI (in), 33 SDO (out), 34 PRD (in), 35 PWR (in), 36 VDDIO (power), 37 D0 (io), 38 D1 (io), 39 D2 (io), 40 D3 (io), 41 D4 (io), 42 D5 (io), 43 D6 (io), 44 D7 (io), 45 NC, 46 GND (power), 47 INT (out), 48 RSTB (in)

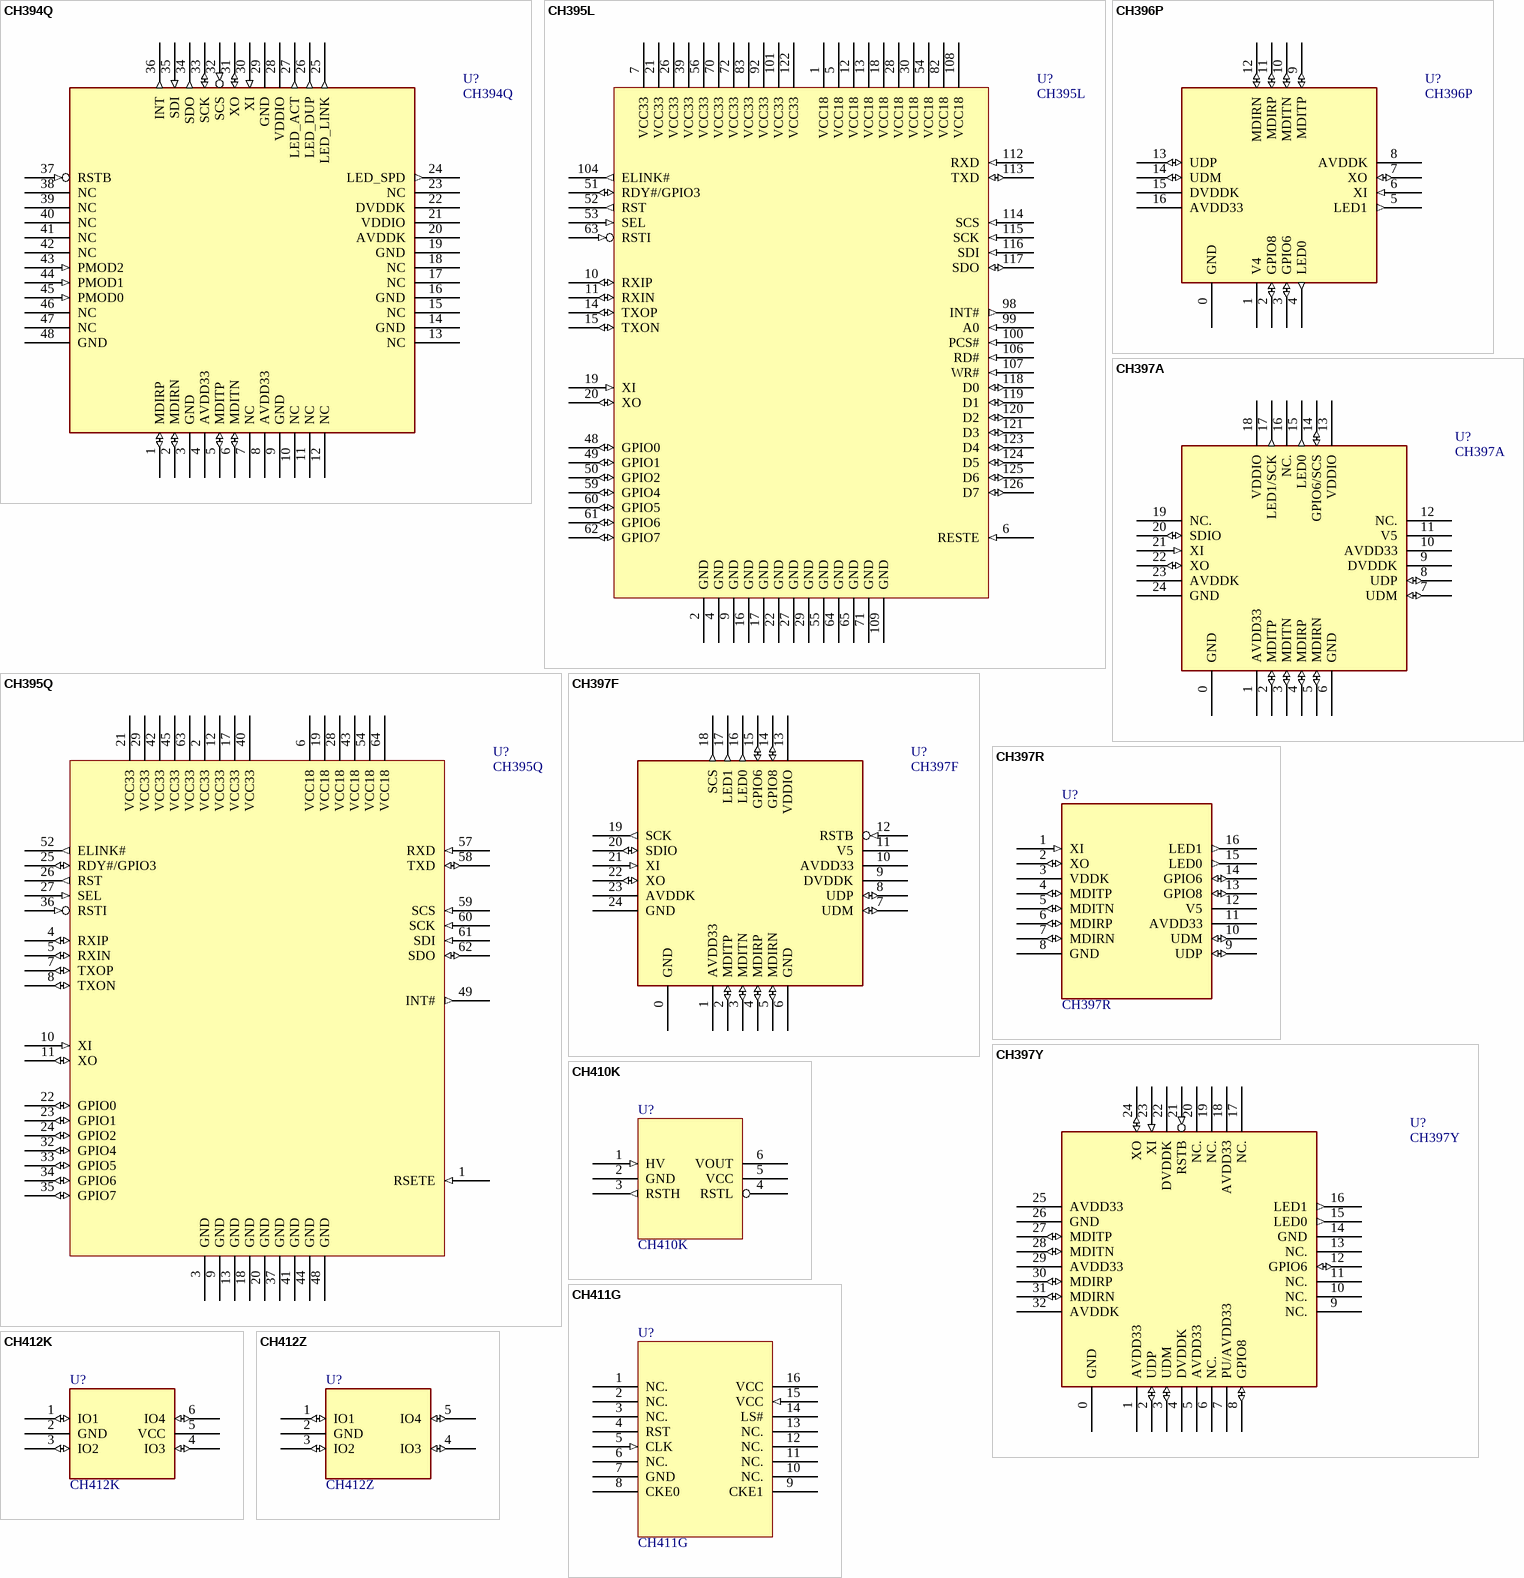
[diagram p31: symbols CH394Q to CH412Z]

## CH394Q
designator U?
TCP/IP embedded 10M/100Mbps ethernet controller for MCU connecting internet
footprint LQFP48 (Footprint not found)
pins: 1 MDIRP (io), 2 MDIRN (io), 3 GND (power), 4 AVDD33 (power), 5 MDITP (io), 6 MDITN (io), 7 NC, 8 AVDD33 (power), 9 GND (power), 10 NC, 11 NC, 12 NC, 13 NC, 14 GND (power), 15 NC, 16 GND (power), 17 NC, 18 NC, 19 GND (power), 20 AVDDK (power), 21 VDDIO (power), 22 DVDDK (power), 23 NC, 24 LED_SPD (out), 25 LED_LINK (out), 26 LED_DUP (out), 27 LED_ACT (out), 28 VDDIO (power), 29 GND (power), 30 XI (in), 31 XO (io), 32 SCS (in), 33 SCK (io), 34 SDO (out), 35 SDI (in), 36 INT (out), 37 RSTB (in), 38 NC, 39 NC, 40 NC, 41 NC, 42 NC, 43 PMOD2 (in), 44 PMOD1 (in), 45 PMOD0 (in), 46 NC, 47 NC, 48 GND (power)

## CH395L
designator U?
TCP/IP embedded 100Mbps ethernet controller for MCU connecting internet
footprint LQFP128
pins: 1 VCC18 (power), 2 GND (power), 4 GND (power), 5 VCC18 (power), 6 RESTE (in), 7 VCC33 (power), 9 GND (power), 10 RXIP (io), 11 RXIN (io), 12 VCC18 (power), 13 VCC18 (power), 14 TXOP (io), 15 TXON (io), 16 GND (power), 17 GND (power), 18 VCC18 (power), 19 XI (in), 20 XO (io), 21 VCC33 (power), 22 GND (power), 26 VCC33 (power), 27 GND (power), 28 VCC18 (power), 29 GND (power), 30 VCC18 (power), 39 VCC33 (power), 48 GPIO0 (io), 49 GPIO1 (io), 50 GPIO2 (io), 51 RDY#/GPIO3 (io), 52 RST (out), 53 SEL (in), 54 VCC18 (power), 55 GND (power), 56 VCC33 (power), 59 GPIO4 (io), 60 GPIO5 (io), 61 GPIO6 (io), 62 GPIO7 (io), 63 RSTI (in), 64 GND (power), 65 GND (power), 70 VCC33 (power), 71 GND (power), 72 VCC33 (power), 82 VCC18 (power), 83 VCC33 (power), 92 VCC33 (power), 98 INT# (out), 99 A0 (in), 100 PCS# (in), 101 VCC33 (power), 104 ELINK# (out), 106 RD# (in), 107 WR# (in), 108 VCC18 (power), 109 GND (power), 112 RXD (in), 113 TXD (io), 114 SCS (in), 115 SCK (in), 116 SDI (in), 117 SDO (io), 118 D0 (io), 119 D1 (io), 120 D2 (io), 121 D3 (io), 122 VCC33 (power), 123 D4 (io), 124 D5 (io), 125 D6 (io), 126 D7 (io)

## CH395Q
designator U?
TCP/IP embedded 100Mbps ethernet controller for MCU connecting internet
footprint LQFP64M_10X10
pins: 1 RSETE (in), 2 VCC33 (power), 3 GND (power), 4 RXIP (io), 5 RXIN (io), 6 VCC18 (power), 7 TXOP (io), 8 TXON (io), 9 GND (power), 10 XI (in), 11 XO (io), 12 VCC33 (power), 13 GND (power), 17 VCC33 (power), 18 GND (power), 19 VCC18 (power), 20 GND (power), 21 VCC33 (power), 22 GPIO0 (io), 23 GPIO1 (io), 24 GPIO2 (io), 25 RDY#/GPIO3 (io), 26 RST (out), 27 SEL (in), 28 VCC18 (power), 29 VCC33 (power), 32 GPIO4 (io), 33 GPIO5 (io), 34 GPIO6 (io), 35 GPIO7 (io), 36 RSTI (in), 37 GND (power), 40 VCC33 (power), 41 GND (power), 42 VCC33 (power), 43 VCC18 (power), 44 GND (power), 45 VCC33 (power), 48 GND (power), 49 INT# (out), 52 ELINK# (out), 54 VCC18 (power), 57 RXD (in), 58 TXD (io), 59 SCS (in), 60 SCK (in), 61 SDI (in), 62 SDO (io), 63 VCC33 (power), 64 VCC18 (power)

## CH396P
designator U?
USB2.0 to 10/100M Fast Ethernet with Driver Flash
footprint QFN16_3X3
pins: 0 GND (power), 1 V4 (power), 2 GPIO8 (io), 3 GPIO6 (io), 4 LED0 (out), 5 LED1 (out), 6 XI (in), 7 XO (io), 8 AVDDK (power), 9 MDITP (io), 10 MDITN (io), 11 MDIRP (io), 12 MDIRN (io), 13 UDP (io), 14 UDM (io), 15 DVDDK (power), 16 AVDD33 (power)
2 alternate drawings of the same symbol

## CH397A
designator U?
USB2.0 to 10/100M Fast Ethernet with Driver Flash
footprint QFN24_4X4
pins: 0 GND (power), 1 AVDD33 (power), 2 MDITP (io), 3 MDITN (io), 4 MDIRP (io), 5 MDIRN (io), 6 GND (power), 7 UDM (io), 8 UDP (io), 9 DVDDK (power), 10 AVDD33 (power), 11 V5 (power), 12 NC., 13 VDDIO (power), 14 GPIO6/SCS (io), 15 LED0 (out), 16 NC., 17 LED1/SCK (out), 18 VDDIO (power), 19 NC., 20 SDIO (io), 21 XI (in), 22 XO (io), 23 AVDDK (power), 24 GND (power)
2 alternate drawings of the same symbol

## CH397F
designator U?
USB2.0 to 10/100M Fast Ethernet
footprint QFN24_4X4
pins: 0 GND (power), 1 AVDD33 (power), 2 MDITP (io), 3 MDITN (io), 4 MDIRP (io), 5 MDIRN (io), 6 GND (power), 7 UDM (io), 8 UDP (io), 9 DVDDK (power), 10 AVDD33 (power), 11 V5 (power), 12 RSTB (in), 13 VDDIO (power), 14 GPIO8 (io), 15 GPIO6 (io), 16 LED0 (out), 17 LED1 (out), 18 SCS (out), 19 SCK (out), 20 SDIO (io), 21 XI (in), 22 XO (io), 23 AVDDK (power), 24 GND (power)
2 alternate drawings of the same symbol

## CH397R
designator U?
USB2.0 to 10/100M Fast Ethernet with Driver Flash
footprint QSOP16
pins: 1 XI (in), 2 XO (io), 3 VDDK (power), 4 MDITP (io), 5 MDITN (io), 6 MDIRP (io), 7 MDIRN (io), 8 GND (power), 9 UDP (io), 10 UDM (io), 11 AVDD33 (power), 12 V5 (power), 13 GPIO8 (io), 14 GPIO6 (io), 15 LED0 (out), 16 LED1 (out)
2 alternate drawings of the same symbol

## CH397Y
designator U?
USB2.0 to 10/100M Fast Ethernet with Driver Flash
footprint QFN32_4X4 (Footprint not found)
pins: 0 GND (power), 1 AVDD33 (power), 2 UDP (io), 3 UDM (io), 4 DVDDK (power), 5 AVDD33 (power), 6 NC., 7 PU/AVDD33 (power), 8 GPIO8 (io), 9 NC., 10 NC., 11 NC., 12 GPIO6 (io), 13 NC., 14 GND (power), 15 LED0 (out), 16 LED1 (out), 17 NC., 18 AVDD33 (power), 19 NC., 20 NC., 21 RSTB (in), 22 DVDDK (power), 23 XI (in), 24 XO (io), 25 AVDD33 (power), 26 GND (power), 27 MDITP (io), 28 MDITN (io), 29 AVDD33 (power), 30 MDIRP (io), 31 MDIRN (io), 32 AVDDK (power)
2 alternate drawings of the same symbol

## CH410K
designator U?
PowerOnReset & LowVoltageReset, voltage monitor
footprint SOT-363
pins: 1 HV (in), 2 GND (power), 3 RSTH (out), 4 RSTL (oc), 5 VCC (power), 6 VOUT (power)
2 alternate drawings of the same symbol

## CH411G
designator U?
Work state monitor
footprint SOP16
pins: 1 NC., 2 NC., 3 NC., 4 RST (oc), 5 CLK (in), 6 NC., 7 GND (power), 8 CKE0 (oc), 9 CKE1 (oc), 10 NC., 11 NC., 12 NC., 13 NC., 14 LS# (oc), 15 VCC (in), 16 VCC (power)

## CH412K
designator U?
Qaud ESD protect, high speed
footprint SOT-363
pins: 1 IO1 (io), 2 GND (power), 3 IO2 (io), 4 IO3 (io), 5 VCC (power), 6 IO4 (io)

## CH412Z
designator U?
Quad ESD protect, low speed
footprint SOT-353
pins: 1 IO1 (io), 2 GND (power), 3 IO2 (io), 4 IO3 (io), 5 IO4 (io)

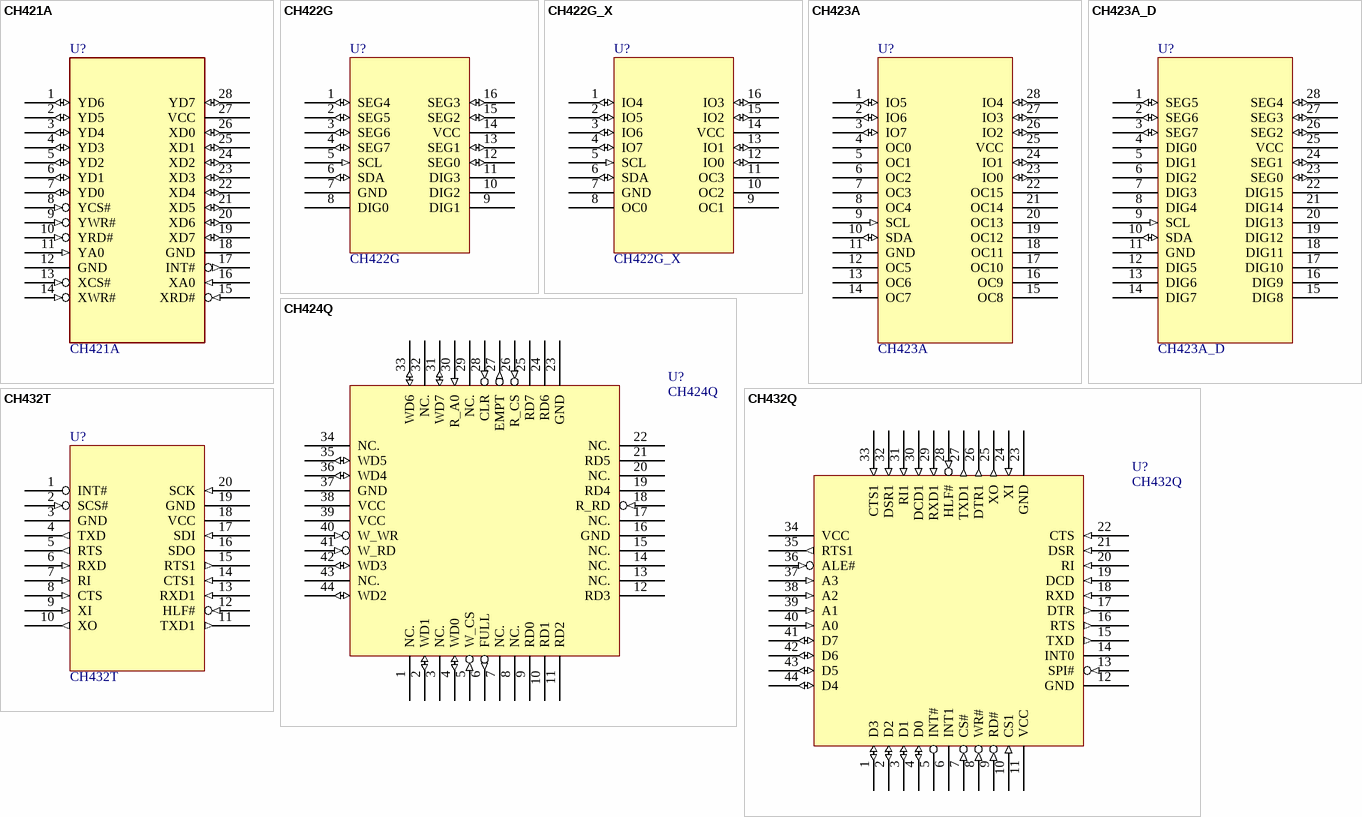
[diagram p32: symbols CH421A to CH432T]

## CH421A
designator U?
Dual port buffer, 66 byte
footprint SOP28
pins: 1 YD6 (io), 2 YD5 (io), 3 YD4 (io), 4 YD3 (io), 5 YD2 (io), 6 YD1 (io), 7 YD0 (io), 8 YCS# (in), 9 YWR# (in), 10 YRD# (in), 11 YA0 (in), 12 GND (power), 13 XCS# (in), 14 XWR# (in), 15 XRD# (in), 16 XA0 (in), 17 INT# (out), 18 GND (power), 19 XD7 (io), 20 XD6 (io), 21 XD5 (io), 22 XD4 (io), 23 XD3 (io), 24 XD2 (io), 25 XD1 (io), 26 XD0 (io), 27 VCC (power), 28 YD7 (io)

## CH422G
designator U?
I2C/IIC I/O expander, GPIO, 8-Seg * 4 / 32 LEDs Drive
footprint SOP16
pins: 1 SEG4 (io), 2 SEG5 (io), 3 SEG6 (io), 4 SEG7 (io), 5 SCL (in), 6 SDA (io), 7 GND (power), 8 DIG0 (oc), 9 DIG1 (oc), 10 DIG2 (oc), 11 DIG3 (oc), 12 SEG0 (io), 13 SEG1 (io), 14 VCC (power), 15 SEG2 (io), 16 SEG3 (io)

## CH422G_X
designator U?
I2C/IIC I/O expander, 4 GPO + 8 GPIO/OC
footprint SOP16
pins: 1 IO4 (io), 2 IO5 (io), 3 IO6 (io), 4 IO7 (io), 5 SCL (in), 6 SDA (io), 7 GND (power), 8 OC0 (oc), 9 OC1 (oc), 10 OC2 (oc), 11 OC3 (oc), 12 IO0 (io), 13 IO1 (io), 14 VCC (power), 15 IO2 (io), 16 IO3 (io)

## CH423A
designator U?
I2C/IIC I/O expander, 16 GPO + 8 GPIO
footprint SOP28
footprint DIP28S
pins: 1 IO5 (io), 2 IO6 (io), 3 IO7 (io), 4 OC0 (oc), 5 OC1 (oc), 6 OC2 (oc), 7 OC3 (oc), 8 OC4 (oc), 9 SCL (in), 10 SDA (io), 11 GND (power), 12 OC5 (oc), 13 OC6 (oc), 14 OC7 (oc), 15 OC8 (oc), 16 OC9 (oc), 17 OC10 (oc), 18 OC11 (oc), 19 OC12 (oc), 20 OC13 (oc), 21 OC14 (oc), 22 OC15 (oc), 23 IO0 (io), 24 IO1 (io), 25 VCC (power), 26 IO2 (io), 27 IO3 (io), 28 IO4 (io)

## CH423A_D
designator U?
I2C/IIC I/O expander, GPIO, 8-Seg * 16 / 128 LEDs Drive
footprint SOP28
footprint DIP28S
pins: 1 SEG5 (io), 2 SEG6 (io), 3 SEG7 (io), 4 DIG0 (oc), 5 DIG1 (oc), 6 DIG2 (oc), 7 DIG3 (oc), 8 DIG4 (oc), 9 SCL (in), 10 SDA (io), 11 GND (power), 12 DIG5 (oc), 13 DIG6 (oc), 14 DIG7 (oc), 15 DIG8 (oc), 16 DIG9 (oc), 17 DIG10 (oc), 18 DIG11 (oc), 19 DIG12 (oc), 20 DIG13 (oc), 21 DIG14 (oc), 22 DIG15 (oc), 23 SEG0 (io), 24 SEG1 (io), 25 VCC (power), 26 SEG2 (io), 27 SEG3 (io), 28 SEG4 (io)

## CH424Q
designator U?
FIFO, 4K byte * 8 bit
footprint LQFP44
pins: 1 NC., 2 WD1 (io), 3 NC., 4 WD0 (io), 5 W_CS (in), 6 FULL (out), 7 NC., 8 NC., 9 RD0 (hiz), 10 RD1 (hiz), 11 RD2 (hiz), 12 RD3 (hiz), 13 NC., 14 NC., 15 NC., 16 GND (power), 17 NC., 18 R_RD (in), 19 RD4 (hiz), 20 NC., 21 RD5 (hiz), 22 NC., 23 GND (power), 24 RD6 (hiz), 25 RD7 (hiz), 26 R_CS (in), 27 EMPT (out), 28 CLR (in), 29 NC., 30 R_A0 (in), 31 WD7 (io), 32 NC., 33 WD6 (io), 34 NC., 35 WD5 (io), 36 WD4 (io), 37 GND (power), 38 VCC (power), 39 VCC (power), 40 W_WR (in), 41 W_RD (in), 42 WD3 (io), 43 NC., 44 WD2 (io)

## CH432Q
designator U?
Dual 16C550 UART with IrDA, parallel / SPI
footprint LQFP44
pins: 1 D3 (io), 2 D2 (io), 3 D1 (io), 4 D0 (io), 5 INT# (oc), 6 INT1 (hiz), 7 CS# (in), 8 WR# (in), 9 RD# (in), 10 CS1 (in), 11 VCC (power), 12 GND (power), 13 SPI# (in), 14 INT0 (hiz), 15 TXD (out), 16 RTS (out), 17 DTR (out), 18 RXD (in), 19 DCD (in), 20 RI (in), 21 DSR (in), 22 CTS (in), 23 GND (power), 24 XI (in), 25 XO (out), 26 DTR1 (out), 27 TXD1 (out), 28 HLF# (in), 29 RXD1 (in), 30 DCD1 (in), 31 RI1 (in), 32 DSR1 (in), 33 CTS1 (in), 34 VCC (power), 35 RTS1 (out), 36 ALE# (in), 37 A3 (in), 38 A2 (in), 39 A1 (in), 40 A0 (in), 41 D7 (io), 42 D6 (io), 43 D5 (io), 44 D4 (io)

## CH432T
designator U?
SPI Dual 16C550 UART with IrDA
footprint SSOP20
pins: 1 INT# (oc), 2 SCS# (in), 3 GND (power), 4 TXD (out), 5 RTS (out), 6 RXD (in), 7 RI (in), 8 CTS (in), 9 XI (in), 10 XO (out), 11 TXD1 (out), 12 HLF# (in), 13 RXD1 (in), 14 CTS1 (in), 15 RTS1 (out), 16 SDO (hiz), 17 SDI (in), 18 VCC (power), 19 GND (power), 20 SCK (in)

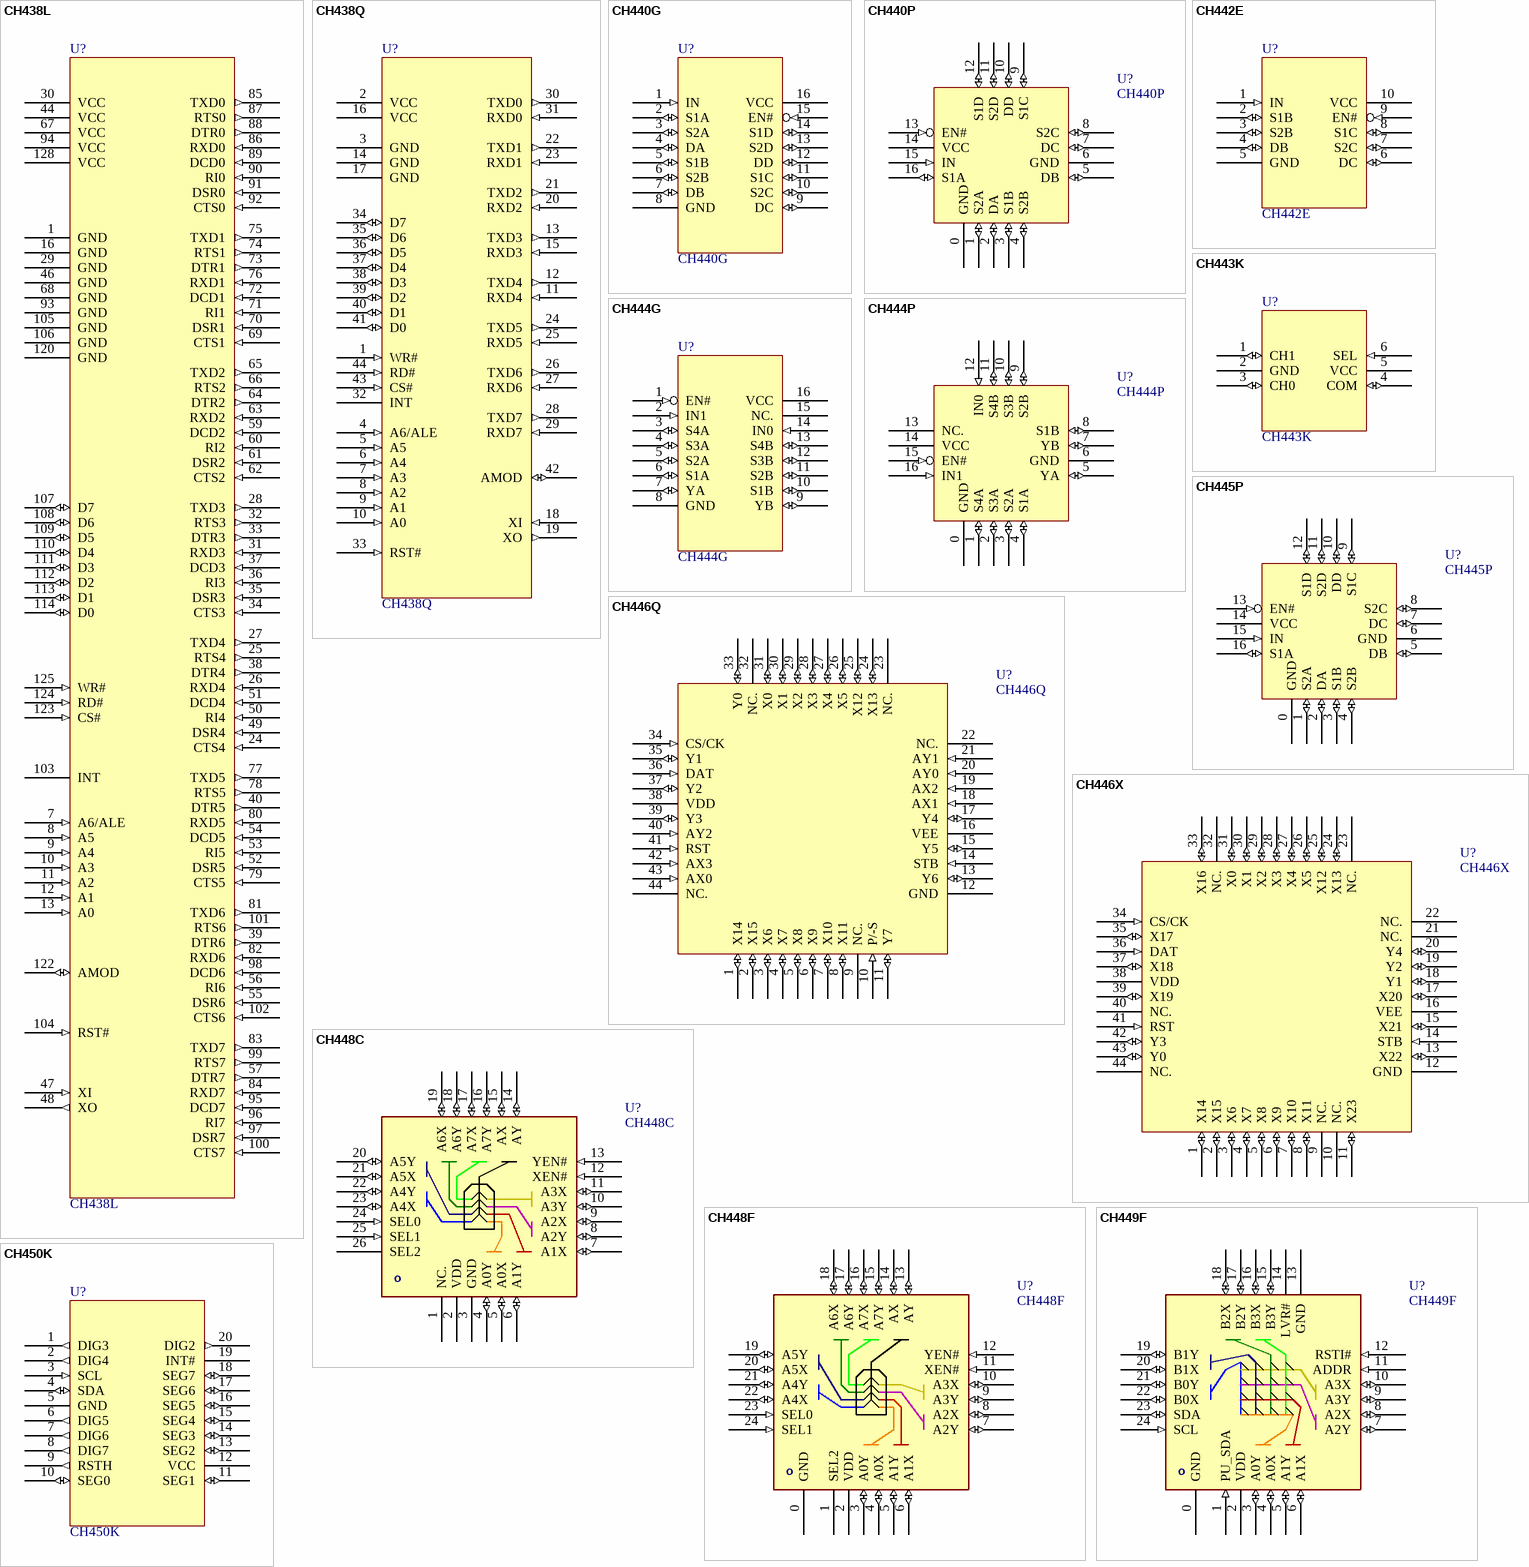
[diagram p33: symbols CH438L to CH450K]

## CH438L
designator U?
Parallel to 8S: Oct 16C550 UART with 128 byte FIFO, TTL Serial*8
footprint LQFP128
pins: 1 GND (power), 7 A6/ALE (in), 8 A5 (in), 9 A4 (in), 10 A3 (in), 11 A2 (in), 12 A1 (in), 13 A0 (in), 16 GND (power), 24 CTS4 (in), 25 RTS4 (out), 26 RXD4 (in), 27 TXD4 (out), 28 TXD3 (out), 29 GND (power), 30 VCC (power), 31 RXD3 (in), 32 RTS3 (out), 33 DTR3 (out), 34 CTS3 (in), 35 DSR3 (in), 36 RI3 (in), 37 DCD3 (in), 38 DTR4 (out), 39 DTR6 (out), 40 DTR5 (out), 44 VCC (power), 46 GND (power), 47 XI (in), 48 XO (out), 49 DSR4 (in), 50 RI4 (in), 51 DCD4 (in), 52 DSR5 (in), 53 RI5 (in), 54 DCD5 (in), 55 DSR6 (in), 56 RI6 (in), 57 DTR7 (out), 59 DCD2 (in), 60 RI2 (in), 61 DSR2 (in), 62 CTS2 (in), 63 RXD2 (in), 64 DTR2 (out), 65 TXD2 (out), 66 RTS2 (out), 67 VCC (power), 68 GND (power), 69 CTS1 (in), 70 DSR1 (in), 71 RI1 (in), 72 DCD1 (in), 73 DTR1 (out), 74 RTS1 (out), 75 TXD1 (out), 76 RXD1 (in), 77 TXD5 (out), 78 RTS5 (out), 79 CTS5 (in), 80 RXD5 (in), 81 TXD6 (out), 82 RXD6 (in), 83 TXD7 (out), 84 RXD7 (in), 85 TXD0 (out), 86 RXD0 (in), 87 RTS0 (out), 88 DTR0 (out), 89 DCD0 (in), 90 RI0 (in), 91 DSR0 (in), 92 CTS0 (in), 93 GND (power), 94 VCC (power), 95 DCD7 (in), 96 RI7 (in), 97 DSR7 (in), 98 DCD6 (in), 99 RTS7 (out), 100 CTS7 (in), 101 RTS6 (out), 102 CTS6 (in), 103 INT (oc), 104 RST# (in), 105 GND (power), 106 GND (power), 107 D7 (io), 108 D6 (io), 109 D5 (io), 110 D4 (io), 111 D3 (io), 112 D2 (io), 113 D1 (io), 114 D0 (io), 120 GND (power), 122 AMOD (io), 123 CS# (in), 124 RD# (in), 125 WR# (in), 128 VCC (power)

## CH438Q
designator U?
Parallel to 8S: Oct 16C550 UART with 128 byte FIFO, TTL Serial*8
footprint LQFP44
pins: 1 WR# (in), 2 VCC (power), 3 GND (power), 4 A6/ALE (in), 5 A5 (in), 6 A4 (in), 7 A3 (in), 8 A2 (in), 9 A1 (in), 10 A0 (in), 11 RXD4 (in), 12 TXD4 (out), 13 TXD3 (out), 14 GND (power), 15 RXD3 (in), 16 VCC (power), 17 GND (power), 18 XI (in), 19 XO (out), 20 RXD2 (in), 21 TXD2 (out), 22 TXD1 (out), 23 RXD1 (in), 24 TXD5 (out), 25 RXD5 (in), 26 TXD6 (out), 27 RXD6 (in), 28 TXD7 (out), 29 RXD7 (in), 30 TXD0 (out), 31 RXD0 (in), 32 INT (oc), 33 RST# (in), 34 D7 (io), 35 D6 (io), 36 D5 (io), 37 D4 (io), 38 D3 (io), 39 D2 (io), 40 D1 (io), 41 D0 (io), 42 AMOD (io), 43 CS# (in), 44 RD# (in)

## CH440G
designator U?
QPDT Low resistance mux 2:1 Analog switches with enable for 5V
footprint SOP16
footprint TSSOP16
pins: 1 IN (in), 2 S1A (io), 3 S2A (io), 4 DA (io), 5 S1B (io), 6 S2B (io), 7 DB (io), 8 GND (power), 9 DC (io), 10 S2C (io), 11 S1C (io), 12 DD (io), 13 S2D (io), 14 S1D (io), 15 EN# (in), 16 VCC (power)

## CH440P
designator U?
QPDT Low resistance mux 2:1 Analog switches with enable for 5V
footprint QFN16_3X3
pins: 0 GND (power), 1 S2A (io), 2 DA (io), 3 S1B (io), 4 S2B (io), 5 DB (io), 6 GND (power), 7 DC (io), 8 S2C (io), 9 S1C (io), 10 DD (io), 11 S2D (io), 12 S1D (io), 13 EN# (in), 14 VCC (power), 15 IN (in), 16 S1A (io)

## CH442E
designator U?
DPDT Low resistance mux 2:1 Analog switches with enable for 5V
footprint MSOP10
pins: 1 IN (in), 2 S1B (io), 3 S2B (io), 4 DB (io), 5 GND (power), 6 DC (io), 7 S2C (io), 8 S1C (io), 9 EN# (in), 10 VCC (power)

## CH443K
designator U?
SPDT Low resistance mux 2:1 Analog switches for 5V
footprint SOT-363
pins: 1 CH1 (io), 2 GND (power), 3 CH0 (io), 4 COM (io), 5 VCC (power), 6 SEL (in)

## CH444G
designator U?
DPQT Low resistance mux 4:1 Analog switches with enable for 5V
footprint SOP16
footprint TSSOP16
pins: 1 EN# (in), 2 IN1 (in), 3 S4A (io), 4 S3A (io), 5 S2A (io), 6 S1A (io), 7 YA (io), 8 GND (power), 9 YB (io), 10 S1B (io), 11 S2B (io), 12 S3B (io), 13 S4B (io), 14 IN0 (in), 15 NC., 16 VCC (power)

## CH444P
designator U?
DPQT Low resistance mux 4:1 Analog switches with enable for 5V
footprint QFN16_3X3
pins: 0 GND (power), 1 S4A (io), 2 S3A (io), 3 S2A (io), 4 S1A (io), 5 YA (io), 6 GND (power), 7 YB (io), 8 S1B (io), 9 S2B (io), 10 S3B (io), 11 S4B (io), 12 IN0 (in), 13 NC., 14 VCC (power), 15 EN# (in), 16 IN1 (in)

## CH445P
designator U?
QPDT Low resistance mux 2:1 Analog switches with enable for 3.3V
footprint QFN16_3X3
pins: 0 GND (power), 1 S2A (io), 2 DA (io), 3 S1B (io), 4 S2B (io), 5 DB (io), 6 GND (power), 7 DC (io), 8 S2C (io), 9 S1C (io), 10 DD (io), 11 S2D (io), 12 S1D (io), 13 EN# (in), 14 VCC (power), 15 IN (in), 16 S1A (io)

## CH446Q
designator U?
8 x 16 Analog switch array, include 128 switches for 12V
footprint LQFP44
pins: 1 X14 (io), 2 X15 (io), 3 X6 (io), 4 X7 (io), 5 X8 (io), 6 X9 (io), 7 X10 (io), 8 X11 (io), 9 NC., 10 P/-S (in), 11 Y7 (io), 12 GND (power), 13 Y6 (io), 14 STB (in), 15 Y5 (io), 16 VEE (power), 17 Y4 (io), 18 AX1 (in), 19 AX2 (in), 20 AY0 (in), 21 AY1 (in), 22 NC., 23 NC., 24 X13 (io), 25 X12 (io), 26 X5 (io), 27 X4 (io), 28 X3 (io), 29 X2 (io), 30 X1 (io), 31 X0 (io), 32 NC., 33 Y0 (io), 34 CS/CK (in), 35 Y1 (io), 36 DAT (in), 37 Y2 (io), 38 VDD (power), 39 Y3 (io), 40 AY2 (in), 41 RST (in), 42 AX3 (in), 43 AX0 (in), 44 NC.

## CH446X
designator U?
5 x 24 Analog switch array, include 120 switches for 12V
footprint LQFP44
pins: 1 X14 (io), 2 X15 (io), 3 X6 (io), 4 X7 (io), 5 X8 (io), 6 X9 (io), 7 X10 (io), 8 X11 (io), 9 NC., 10 NC., 11 X23 (io), 12 GND (power), 13 X22 (io), 14 STB (in), 15 X21 (io), 16 VEE (power), 17 X20 (io), 18 Y1 (io), 19 Y2 (io), 20 Y4 (io), 21 NC., 22 NC., 23 NC., 24 X13 (io), 25 X12 (io), 26 X5 (io), 27 X4 (io), 28 X3 (io), 29 X2 (io), 30 X1 (io), 31 X0 (io), 32 NC., 33 X16 (io), 34 CS/CK (in), 35 X17 (io), 36 DAT (in), 37 X18 (io), 38 VDD (power), 39 X19 (io), 40 NC., 41 RST (in), 42 Y3 (io), 43 Y0 (io), 44 NC.

## CH448C
designator U?
USB2.0 mux 8:1 / 16:1 Differential Switch, DPOT with dual enable
footprint QFN26C_3X3
pins: 1 NC., 2 VDD (power), 3 GND (power), 4 A0Y (io), 5 A0X (io), 6 A1Y (io), 7 A1X (io), 8 A2Y (io), 9 A2X (io), 10 A3Y (io), 11 A3X (io), 12 XEN# (in), 13 YEN# (in), 14 AY (io), 15 AX (io), 16 A7Y (io), 17 A7X (io), 18 A6Y (io), 19 A6X (io), 20 A5Y (io), 21 A5X (io), 22 A4Y (io), 23 A4X (io), 24 SEL0 (in), 25 SEL1 (in), 26 SEL2 (power)
2 alternate drawings of the same symbol
text: o

## CH448F
designator U?
USB2.0 mux 8:1 / 16:1 Differential Switch, DPOT with dual enable
footprint QFN24_4X4
pins: 0 GND (power), 1 SEL2 (power), 2 VDD (power), 3 A0Y (io), 4 A0X (io), 5 A1Y (io), 6 A1X (io), 7 A2Y (io), 8 A2X (io), 9 A3Y (io), 10 A3X (io), 11 XEN# (in), 12 YEN# (in), 13 AY (io), 14 AX (io), 15 A7Y (io), 16 A7X (io), 17 A6Y (io), 18 A6X (io), 19 A5Y (io), 20 A5X (io), 21 A4Y (io), 22 A4X (io), 23 SEL0 (in), 24 SEL1 (in)
2 alternate drawings of the same symbol
text: o

## CH449F
designator U?
USB2.0 4x4 Analog Differential Switch Matrix, QXQX
footprint QFN24_4X4
pins: 0 GND (power), 1 PU_SDA (in), 2 VDD (power), 3 A0Y (io), 4 A0X (io), 5 A1Y (io), 6 A1X (io), 7 A2Y (io), 8 A2X (io), 9 A3Y (io), 10 A3X (io), 11 ADDR (in), 12 RSTI# (in), 13 GND (power), 14 LVR# (oc), 15 B3Y (io), 16 B3X (io), 17 B2Y (io), 18 B2X (io), 19 B1Y (io), 20 B1X (io), 21 B0Y (io), 22 B0X (io), 23 SDA (io), 24 SCL (in)
2 alternate drawings of the same symbol
text: o

## CH450K
designator U?
8-Seg * 6 Digits / 48 LEDs Drive & 8x6 Keyboard, I2C/IIC
footprint DIP20
footprint SOP20
pins: 1 DIG3 (out), 2 DIG4 (out), 3 SCL (in), 4 SDA (io), 5 GND (power), 6 DIG5 (out), 7 DIG6 (out), 8 DIG7 (out), 9 RSTH (out), 10 SEG0 (io), 11 SEG1 (io), 12 VCC (power), 13 SEG2 (io), 14 SEG3 (io), 15 SEG4 (io), 16 SEG5 (io), 17 SEG6 (io), 18 SEG7 (io), 19 INT# (oc), 20 DIG2 (out)

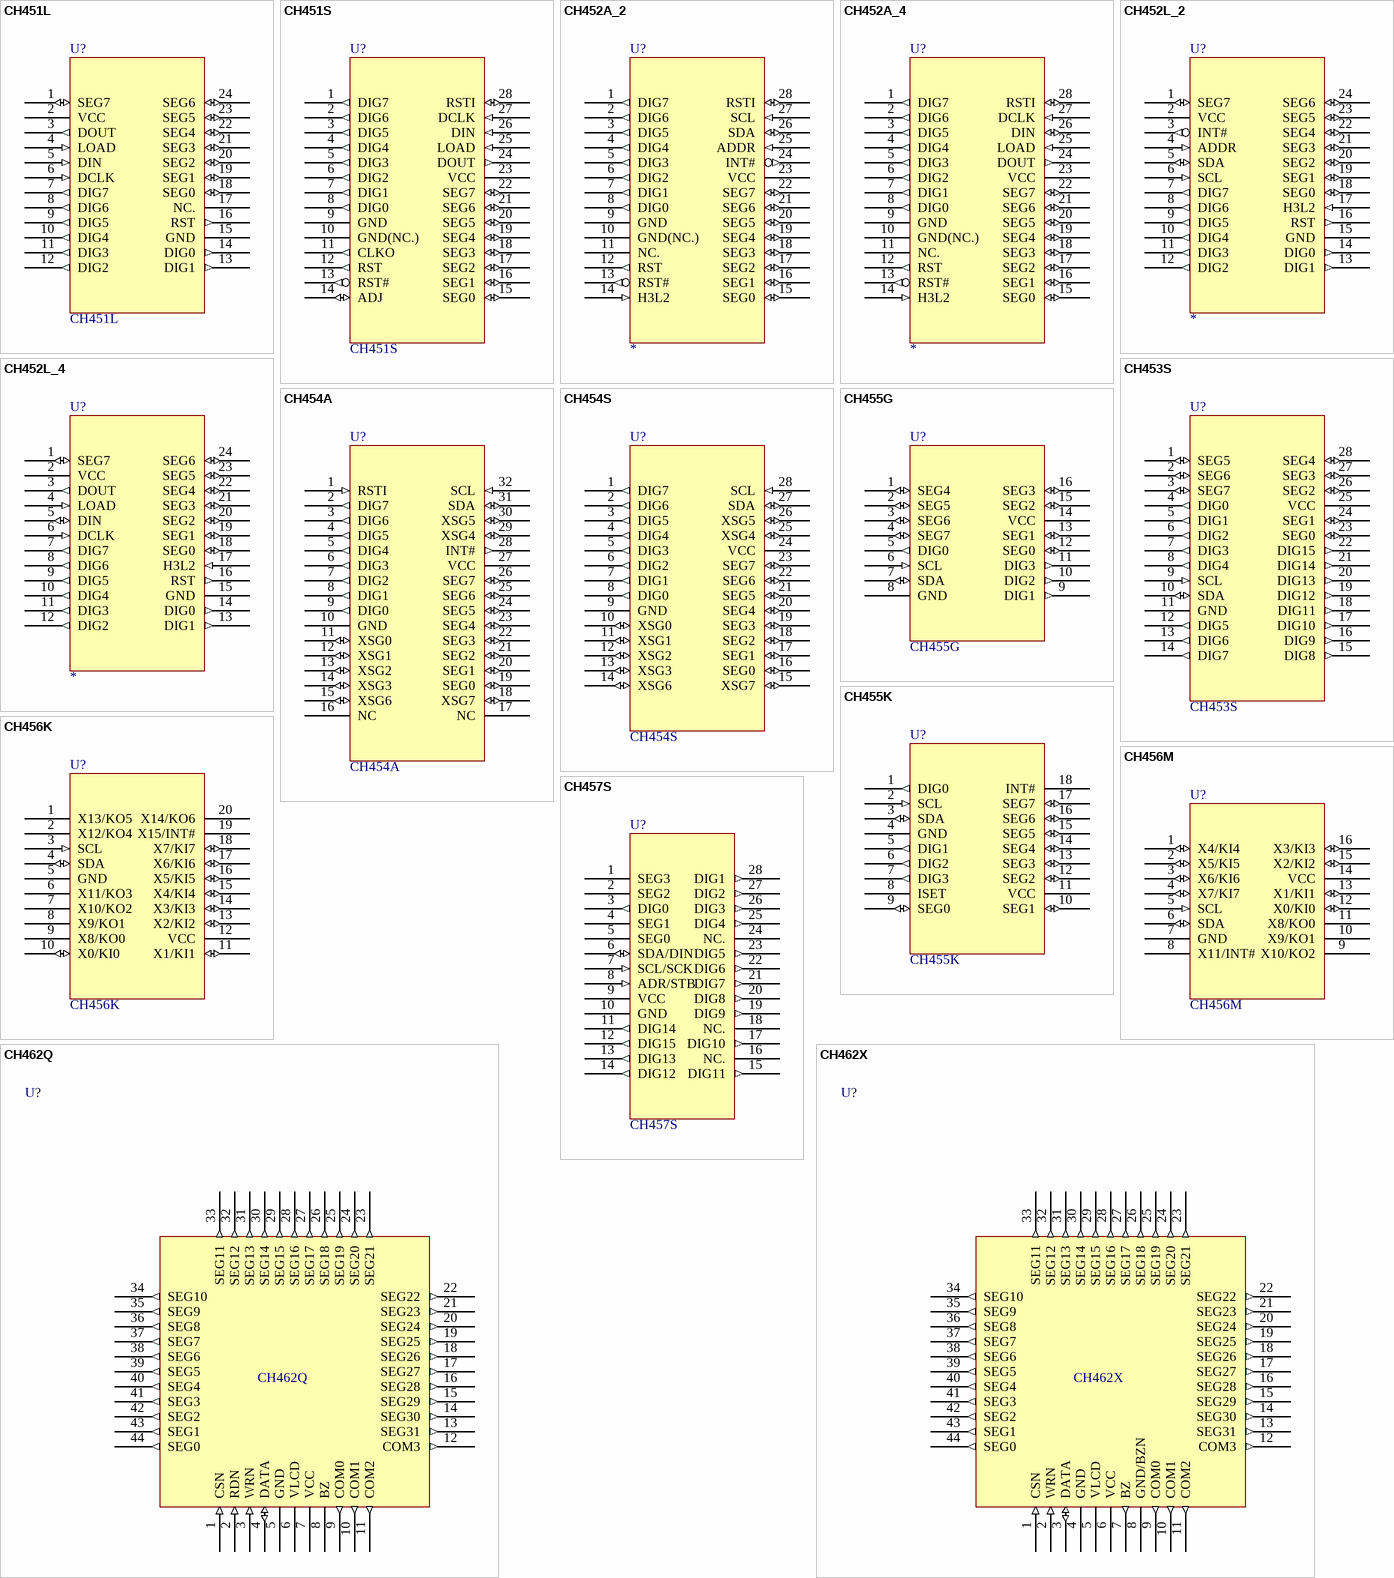
[diagram p34: symbols CH451L to CH462X]

## CH451L
designator U?
8-Seg * 8 Digits / 64 LEDs Drive & 8x8 Keyboard, 4 Wire Interface, SPI
footprint DIP24S
pins: 1 SEG7 (io), 2 VCC (power), 3 DOUT (out), 4 LOAD (in), 5 DIN (in), 6 DCLK (in), 7 DIG7 (out), 8 DIG6 (out), 9 DIG5 (out), 10 DIG4 (out), 11 DIG3 (out), 12 DIG2 (out), 13 DIG1 (out), 14 DIG0 (out), 15 GND (power), 16 RST (out), 17 NC., 18 SEG0 (io), 19 SEG1 (io), 20 SEG2 (io), 21 SEG3 (io), 22 SEG4 (io), 23 SEG5 (io), 24 SEG6 (io)

## CH451S
designator U?
8-Seg * 8 Digits / 64 LEDs Drive & 8x8 Keyboard, 4 Wire Interface, SPI
footprint SOP28
footprint DIP28
pins: 1 DIG7 (out), 2 DIG6 (out), 3 DIG5 (out), 4 DIG4 (out), 5 DIG3 (out), 6 DIG2 (out), 7 DIG1 (out), 8 DIG0 (out), 9 GND (power), 10 GND(NC.) (power), 11 CLKO (out), 12 RST (out), 13 RST# (out), 14 ADJ (io), 15 SEG0 (io), 16 SEG1 (io), 17 SEG2 (io), 18 SEG3 (io), 19 SEG4 (io), 20 SEG5 (io), 21 SEG6 (io), 22 SEG7 (io), 23 VCC (power), 24 DOUT (out), 25 LOAD (in), 26 DIN (in), 27 DCLK (in), 28 RSTI (io)

## CH452A_2
designator U?
8-Seg * 8 Digits / 64 LEDs Drive & 8x8 Keyboard, 2 Wire Interface, I2C/IIC
footprint SOP28
footprint DIP28
pins: 1 DIG7 (out), 2 DIG6 (out), 3 DIG5 (out), 4 DIG4 (out), 5 DIG3 (out), 6 DIG2 (out), 7 DIG1 (out), 8 DIG0 (out), 9 GND (power), 10 GND(NC.) (power), 11 NC., 12 RST (out), 13 RST# (out), 14 H3L2 (in), 15 SEG0 (io), 16 SEG1 (io), 17 SEG2 (io), 18 SEG3 (io), 19 SEG4 (io), 20 SEG5 (io), 21 SEG6 (io), 22 SEG7 (io), 23 VCC (power), 24 INT# (out), 25 ADDR (in), 26 SDA (io), 27 SCL (in), 28 RSTI (io)

## CH452A_4
designator U?
8-Seg * 8 Digits / 64 LEDs Drive & 8x8 Keyboard, 4 Wire Interface, SPI
footprint SOP28
footprint DIP28
pins: 1 DIG7 (out), 2 DIG6 (out), 3 DIG5 (out), 4 DIG4 (out), 5 DIG3 (out), 6 DIG2 (out), 7 DIG1 (out), 8 DIG0 (out), 9 GND (power), 10 GND(NC.) (power), 11 NC., 12 RST (out), 13 RST# (out), 14 H3L2 (in), 15 SEG0 (io), 16 SEG1 (io), 17 SEG2 (io), 18 SEG3 (io), 19 SEG4 (io), 20 SEG5 (io), 21 SEG6 (io), 22 SEG7 (io), 23 VCC (power), 24 DOUT (out), 25 LOAD (in), 26 DIN (io), 27 DCLK (in), 28 RSTI (io)

## CH452L_2
designator U?
8-Seg * 8 Digits / 64 LEDs Drive & 8x8 Keyboard, 2 Wire Interface, I2C/IIC
footprint DIP24S
pins: 1 SEG7 (io), 2 VCC (power), 3 INT# (out), 4 ADDR (in), 5 SDA (io), 6 SCL (in), 7 DIG7 (out), 8 DIG6 (out), 9 DIG5 (out), 10 DIG4 (out), 11 DIG3 (out), 12 DIG2 (out), 13 DIG1 (out), 14 DIG0 (out), 15 GND (power), 16 RST (out), 17 H3L2 (in), 18 SEG0 (io), 19 SEG1 (io), 20 SEG2 (io), 21 SEG3 (io), 22 SEG4 (io), 23 SEG5 (io), 24 SEG6 (io)

## CH452L_4
designator U?
8-Seg * 8 Digits / 64 LEDs Drive & 8x8 Keyboard, 4 Wire Interface, SPI
footprint DIP24S
pins: 1 SEG7 (io), 2 VCC (power), 3 DOUT (out), 4 LOAD (in), 5 DIN (io), 6 DCLK (in), 7 DIG7 (out), 8 DIG6 (out), 9 DIG5 (out), 10 DIG4 (out), 11 DIG3 (out), 12 DIG2 (out), 13 DIG1 (out), 14 DIG0 (out), 15 GND (power), 16 RST (out), 17 H3L2 (in), 18 SEG0 (io), 19 SEG1 (io), 20 SEG2 (io), 21 SEG3 (io), 22 SEG4 (io), 23 SEG5 (io), 24 SEG6 (io)

## CH453S
designator U?
8-Seg * 16 Digits / 128 LEDs Drive, I2C/IIC
footprint SOP28
footprint DIP28S
pins: 1 SEG5 (io), 2 SEG6 (io), 3 SEG7 (io), 4 DIG0 (out), 5 DIG1 (out), 6 DIG2 (out), 7 DIG3 (out), 8 DIG4 (out), 9 SCL (in), 10 SDA (io), 11 GND (power), 12 DIG5 (out), 13 DIG6 (out), 14 DIG7 (out), 15 DIG8 (out), 16 DIG9 (out), 17 DIG10 (out), 18 DIG11 (out), 19 DIG12 (out), 20 DIG13 (out), 21 DIG14 (out), 22 DIG15 (out), 23 SEG0 (io), 24 SEG1 (io), 25 VCC (power), 26 SEG2 (io), 27 SEG3 (io), 28 SEG4 (io)

## CH454A
designator U?
16 Segments * 8 Digits / 128 LEDs Drive & 8x8 Keyboard, I2C/IIC
footprint SDIP32
pins: 1 RSTI (in), 2 DIG7 (out), 3 DIG6 (out), 4 DIG5 (out), 5 DIG4 (out), 6 DIG3 (out), 7 DIG2 (out), 8 DIG1 (out), 9 DIG0 (out), 10 GND (power), 11 XSG0 (io), 12 XSG1 (io), 13 XSG2 (io), 14 XSG3 (io), 15 XSG6 (io), 16 NC, 17 NC, 18 XSG7 (io), 19 SEG0 (io), 20 SEG1 (io), 21 SEG2 (io), 22 SEG3 (io), 23 SEG4 (io), 24 SEG5 (io), 25 SEG6 (io), 26 SEG7 (io), 27 VCC (power), 28 INT# (out), 29 XSG4 (io), 30 XSG5 (io), 31 SDA (io), 32 SCL (in)

## CH454S
designator U?
16 Segments * 8 Digits / 128 LEDs Drive & 8x8 Keyboard, I2C/IIC
footprint SOP28
pins: 1 DIG7 (out), 2 DIG6 (out), 3 DIG5 (out), 4 DIG4 (out), 5 DIG3 (out), 6 DIG2 (out), 7 DIG1 (out), 8 DIG0 (out), 9 GND (power), 10 XSG0 (io), 11 XSG1 (io), 12 XSG2 (io), 13 XSG3 (io), 14 XSG6 (io), 15 XSG7 (io), 16 SEG0 (io), 17 SEG1 (io), 18 SEG2 (io), 19 SEG3 (io), 20 SEG4 (io), 21 SEG5 (io), 22 SEG6 (io), 23 SEG7 (io), 24 VCC (power), 25 XSG4 (io), 26 XSG5 (io), 27 SDA (io), 28 SCL (in)

## CH455G
designator U?
8-Seg * 4 Digits / 32 LEDs Drive & 7x4 Keyboard, I2C/IIC
footprint SOP16
pins: 1 SEG4 (io), 2 SEG5 (io), 3 SEG6 (io), 4 SEG7 (io), 5 DIG0 (out), 6 SCL (in), 7 SDA (io), 8 GND (power), 9 DIG1 (out), 10 DIG2 (out), 11 DIG3 (out), 12 SEG0 (io), 13 SEG1 (io), 14 VCC (power), 15 SEG2 (io), 16 SEG3 (io)

## CH455K
designator U?
8-Seg * 4 Digits / 32 LEDs Drive & 7x4 Keyboard, I2C/IIC
footprint SOP18
footprint DIP18
pins: 1 DIG0 (out), 2 SCL (in), 3 SDA (io), 4 GND (power), 5 DIG1 (out), 6 DIG2 (out), 7 DIG3 (out), 8 ISET, 9 SEG0 (io), 10 SEG1 (io), 11 VCC (power), 12 SEG2 (io), 13 SEG3 (io), 14 SEG4 (io), 15 SEG5 (io), 16 SEG6 (io), 17 SEG7 (io), 18 INT# (oc)

## CH456K
designator U?
8-Seg * 16 Digits / 128 LEDs Drive & 8x8 Keyboard, I2C/IIC
footprint DIP20
footprint SOP20
pins: 1 X13/KO5 (hiz), 2 X12/KO4 (hiz), 3 SCL (in), 4 SDA (io), 5 GND (power), 6 X11/KO3 (hiz), 7 X10/KO2 (hiz), 8 X9/KO1 (hiz), 9 X8/KO0 (hiz), 10 X0/KI0 (io), 11 X1/KI1 (io), 12 VCC (power), 13 X2/KI2 (io), 14 X3/KI3 (io), 15 X4/KI4 (io), 16 X5/KI5 (io), 17 X6/KI6 (io), 18 X7/KI7 (io), 19 X15/INT# (hiz), 20 X14/KO6 (hiz)

## CH456M
designator U?
8-Seg * 12 Digits / 96 LEDs Drive & 4x8 Keyboard, I2C/IIC
footprint DIP16
footprint SOP16
pins: 1 X4/KI4 (io), 2 X5/KI5 (io), 3 X6/KI6 (io), 4 X7/KI7 (io), 5 SCL (in), 6 SDA (io), 7 GND (power), 8 X11/INT# (hiz), 9 X10/KO2 (hiz), 10 X9/KO1 (hiz), 11 X8/KO0 (hiz), 12 X0/KI0 (io), 13 X1/KI1 (io), 14 VCC (power), 15 X2/KI2 (io), 16 X3/KI3 (io)

## CH457S
designator U?
8-Seg * 16 Digits / 128 LEDs Drive, I2C/IIC/2-wire/3-wire
footprint SOP28
footprint TSSOP28
pins: 1 SEG3 (hiz), 2 SEG2 (hiz), 3 DIG0 (out), 4 SEG1 (hiz), 5 SEG0 (hiz), 6 SDA/DIN (io), 7 SCL/SCK (in), 8 ADR/STB (in), 9 VCC (power), 10 GND (power), 11 DIG14 (out), 12 DIG15 (out), 13 DIG13 (out), 14 DIG12 (out), 15 DIG11 (out), 16 NC., 17 DIG10 (out), 18 NC., 19 DIG9 (out), 20 DIG8 (out), 21 DIG7 (out), 22 DIG6 (out), 23 DIG5 (out), 24 NC., 25 DIG4 (out), 26 DIG3 (out), 27 DIG2 (out), 28 DIG1 (out)

## CH462Q
designator U?
32*4 LCD controller, 4-wire
footprint LQFP44
pins: 1 CSN (in), 2 RDN (in), 3 WRN (in), 4 DATA (io), 5 GND (power), 6 VLCD (power), 7 VCC (power), 8 BZ, 9 COM0 (out), 10 COM1 (out), 11 COM2 (out), 12 COM3 (out), 13 SEG31 (out), 14 SEG30 (out), 15 SEG29 (out), 16 SEG28 (out), 17 SEG27 (out), 18 SEG26 (out), 19 SEG25 (out), 20 SEG24 (out), 21 SEG23 (out), 22 SEG22 (out), 23 SEG21 (out), 24 SEG20 (out), 25 SEG19 (out), 26 SEG18 (out), 27 SEG17 (out), 28 SEG16 (out), 29 SEG15 (out), 30 SEG14 (out), 31 SEG13 (out), 32 SEG12 (out), 33 SEG11 (out), 34 SEG10 (out), 35 SEG9 (out), 36 SEG8 (out), 37 SEG7 (out), 38 SEG6 (out), 39 SEG5 (out), 40 SEG4 (out), 41 SEG3 (out), 42 SEG2 (out), 43 SEG1 (out), 44 SEG0 (out)

## CH462X
designator U?
32*4 LCD controller, 3-wire
footprint LQFP44
pins: 1 CSN (in), 2 WRN (in), 3 DATA (io), 4 GND (power), 5 VLCD (power), 6 VCC (power), 7 BZ (out), 8 GND/BZN (power), 9 COM0 (out), 10 COM1 (out), 11 COM2 (out), 12 COM3 (out), 13 SEG31 (out), 14 SEG30 (out), 15 SEG29 (out), 16 SEG28 (out), 17 SEG27 (out), 18 SEG26 (out), 19 SEG25 (out), 20 SEG24 (out), 21 SEG23 (out), 22 SEG22 (out), 23 SEG21 (out), 24 SEG20 (out), 25 SEG19 (out), 26 SEG18 (out), 27 SEG17 (out), 28 SEG16 (out), 29 SEG15 (out), 30 SEG14 (out), 31 SEG13 (out), 32 SEG12 (out), 33 SEG11 (out), 34 SEG10 (out), 35 SEG9 (out), 36 SEG8 (out), 37 SEG7 (out), 38 SEG6 (out), 39 SEG5 (out), 40 SEG4 (out), 41 SEG3 (out), 42 SEG2 (out), 43 SEG1 (out), 44 SEG0 (out)

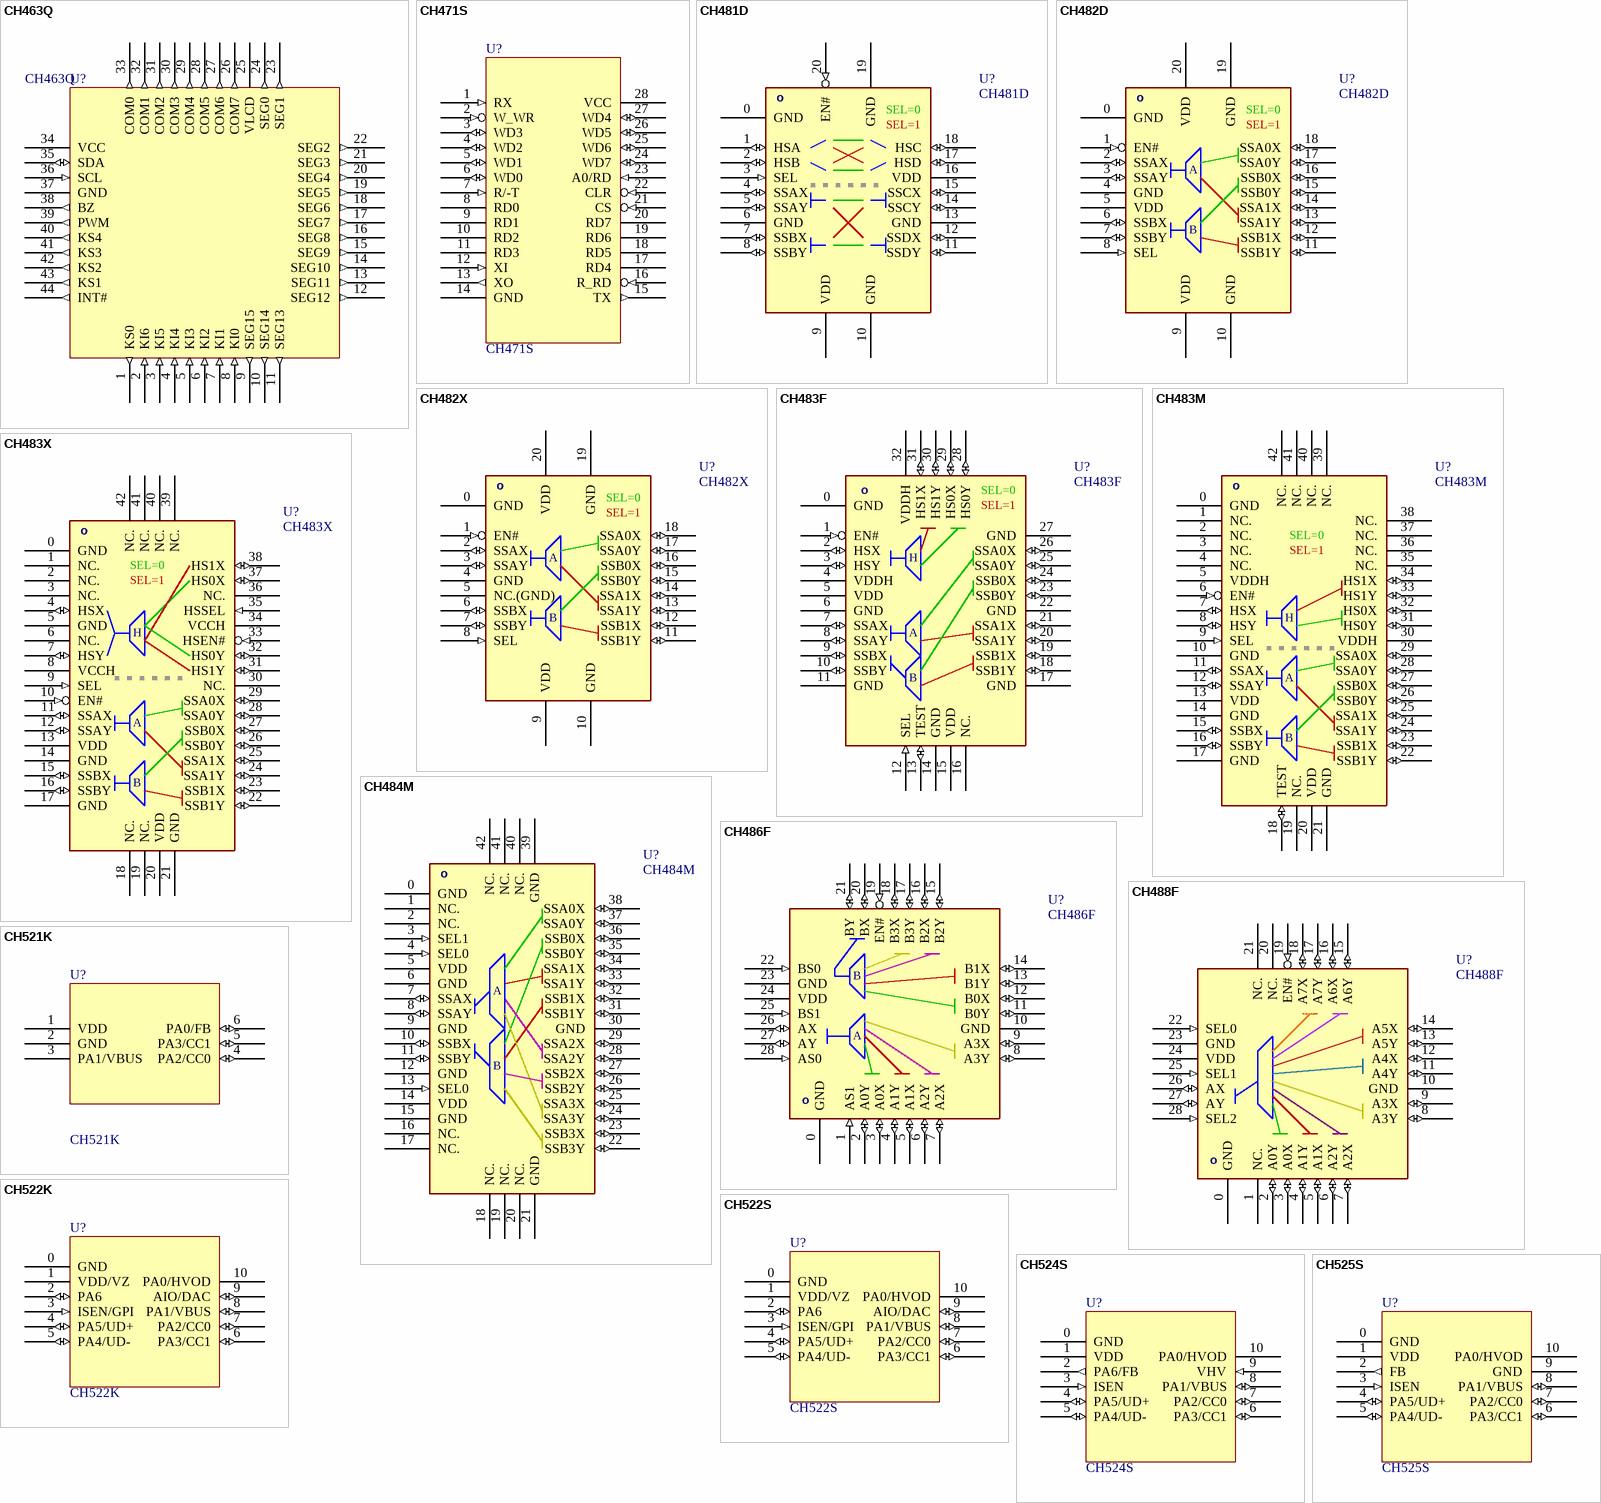
[diagram p35: symbols CH463Q to CH525S]

## CH463Q
designator U?
16*8 LCD controller & 7*5 keyboard, 2-wire
footprint LQFP44
pins: 1 KS0 (out), 2 KI6 (in), 3 KI5 (in), 4 KI4 (in), 5 KI3 (in), 6 KI2 (in), 7 KI1 (in), 8 KI0 (in), 9 SEG15 (out), 10 SEG14 (out), 11 SEG13 (out), 12 SEG12 (out), 13 SEG11 (out), 14 SEG10 (out), 15 SEG9 (out), 16 SEG8 (out), 17 SEG7 (out), 18 SEG6 (out), 19 SEG5 (out), 20 SEG4 (out), 21 SEG3 (out), 22 SEG2 (out), 23 SEG1 (out), 24 SEG0 (out), 25 VLCD (power), 26 COM7 (out), 27 COM6 (out), 28 COM5 (out), 29 COM4 (out), 30 COM3 (out), 31 COM2 (out), 32 COM1 (out), 33 COM0 (out), 34 VCC (power), 35 SDA (io), 36 SCL (in), 37 GND (power), 38 BZ (out), 39 PWM (out), 40 KS4 (out), 41 KS3 (out), 42 KS2 (out), 43 KS1 (out), 44 INT# (out)

## CH471S
designator U?
footprint SOP28
pins: 1 RX (in), 2 W_WR (in), 3 WD3 (io), 4 WD2 (io), 5 WD1 (io), 6 WD0 (io), 7 R/-T (in), 8 RD0 (hiz), 9 RD1 (hiz), 10 RD2 (hiz), 11 RD3 (hiz), 12 XI (in), 13 XO (out), 14 GND (power), 15 TX (out), 16 R_RD (in), 17 RD4 (hiz), 18 RD5 (hiz), 19 RD6 (hiz), 20 RD7 (hiz), 21 CS (in), 22 CLR (in), 23 A0/RD (in), 24 WD7 (io), 25 WD6 (io), 26 WD5 (io), 27 WD4 (io), 28 VCC (power)

## CH481D
designator U?
DP/PCIe/SATA/USB3.0 Differential Switch, QPDT
footprint QFN20_2.5X4.5
pins: 0 GND (power), 1 HSA (io), 2 HSB (io), 3 SEL (in), 4 SSAX (io), 5 SSAY (io), 6 GND (power), 7 SSBX (io), 8 SSBY (io), 9 VDD (power), 10 GND (power), 11 SSDY (io), 12 SSDX (io), 13 GND (power), 14 SSCY (io), 15 SSCX (io), 16 VDD (power), 17 HSD (io), 18 HSC (io), 19 GND (power), 20 EN# (in)
2 alternate drawings of the same symbol
text: o; SEL=0; SEL=1

## CH482D
designator U?
DP/PCIe/SATA/USB3.0 Differential Switch, QPDT
footprint QFN20_2.5X4.5
pins: 0 GND (power), 1 EN# (in), 2 SSAX (io), 3 SSAY (io), 4 GND (power), 5 VDD (power), 6 SSBX (io), 7 SSBY (io), 8 SEL (in), 9 VDD (power), 10 GND (power), 11 SSB1Y (io), 12 SSB1X (io), 13 SSA1Y (io), 14 SSA1X (io), 15 SSB0Y (io), 16 SSB0X (io), 17 SSA0Y (io), 18 SSA0X (io), 19 GND (power), 20 VDD (power)
2 alternate drawings of the same symbol
text: o; SEL=0; SEL=1; A; B